# Altium schematic symbol library Microcontrolador.SchLib: 32 symbols (part 2 of 3)
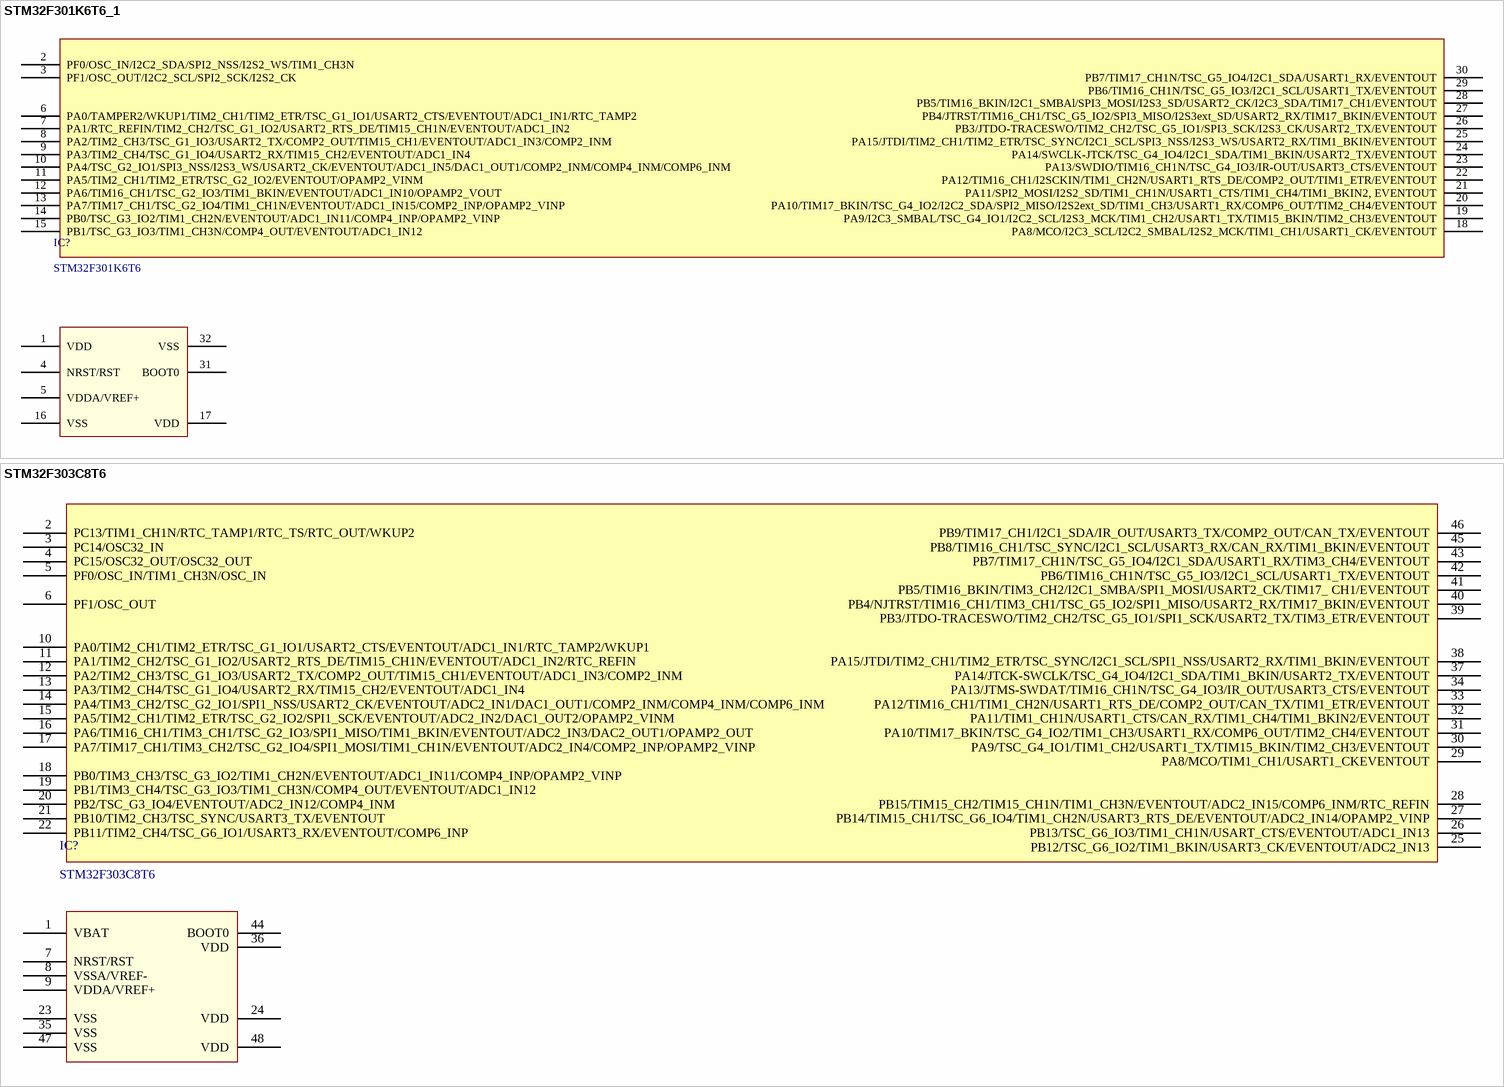
[diagram p12: symbols STM32F301K6T6_1 to STM32F303C8T6]

## STM32F303C8T6
designator IC?
IC MCU 32-BIT 64kB FLASH ARM Cortex-M4 72MHZ LQFP-48; Manufacturer: STMicroelectronics; Connectivity: CAN,I2C,LIN,SPI,USART,IrDA; Number of I/Os: 38; Oscillator Type: Internal; Peripherals: Reset,PWM,WDT,DMA,SPI,I2C,Timer,ADC,DAC,USART; RAM Size: 16 kB; Voltage - Supply (Vcc/Vdd): 2V ~ 3.6V; Number of Timers/Counters: 11; Number of ADC Channels: 15; Number of SPI Channels: 1; Number of UART/USART Channels: 3; Library Control - Checked Footprint: Yes; Library Control - Person that Checked Footprint: Gustavo; Library Control - Person that did the Last Update Footprint: Stéfany (Ster); Library Control - Person that did the Last Update Schematic: Maria Laura e Stéfany (Ster); Supplier 1: Mouser; Part Number: STM32F303C8T6; Category: ARM-Microcontrollers; Price: 1=7.28, 10=6.58, 100=5.45 (USD); Package / Case: LQFP-48; Operating Temperature: -40C ~ 85C; Speed: 72 MHz; Program Memory Type: Flash; Program Memory Size: 64 kB; Core Processor: ARM Cortex-M4; Core Size: 32-bit; Number of I2C Channels: 1; Number of Ethernet Channels: -; Number of USB Channels: -; Series: STM32F3; Library Ref: Microcontroller; Supplier Part Number 1: 511-STM32F303C8T6; Library Control - Checked Schematic: Yes; Library Control - Last Update: 19/08/2022 20:50; Library Control - Person that Checked Schematic: Gustavo; ComponentLink1Description: Mouser Link; ComponentLink1URL: https://br.mouser.com/ProductDetail/STMicroelectronics/STM32F303C8T6?qs=%2Fha2pyFadugVtlbo%2FWUwLIDEIPGaO6sxMBK%252BtuVV9P8f9sMkjwQxlV3LpBGivNNF; ComponentLink2Description: Datasheet; ComponentLink2URL: https://br.mouser.com/datasheet/2/389/dm00092070-1797744.pdf
footprint LQFP-48
pins: 1 VBAT, 2 PC13/TIM1_CH1N/RTC_TAMP1/RTC_TS/RTC_OUT/WKUP2, 3 PC14/OSC32_IN, 4 PC15/OSC32_OUT/OSC32_OUT, 5 PF0/OSC_IN/TIM1_CH3N/OSC_IN, 6 PF1/OSC_OUT, 7 NRST/RST, 8 VSSA/VREF-, 9 VDDA/VREF+, 10 PA0/TIM2_CH1/TIM2_ETR/TSC_G1_IO1/USART2_CTS/EVENTOUT/ADC1_IN1/RTC_TAMP2/WKUP1, 11 PA1/TIM2_CH2/TSC_G1_IO2/USART2_RTS_DE/TIM15_CH1N/EVENTOUT/ADC1_IN2/RTC_REFIN, 12 PA2/TIM2_CH3/TSC_G1_IO3/USART2_TX/COMP2_OUT/TIM15_CH1/EVENTOUT/ADC1_IN3/COMP2_INM, 13 PA3/TIM2_CH4/TSC_G1_IO4/USART2_RX/TIM15_CH2/EVENTOUT/ADC1_IN4, 14 PA4/TIM3_CH2/TSC_G2_IO1/SPI1_NSS/USART2_CK/EVENTOUT/ADC2_IN1/DAC1_OUT1/COMP2_INM/COMP4_INM/COMP6_INM, 15 PA5/TIM2_CH1/TIM2_ETR/TSC_G2_IO2/SPI1_SCK/EVENTOUT/ADC2_IN2/DAC1_OUT2/OPAMP2_VINM, 16 PA6/TIM16_CH1/TIM3_CH1/TSC_G2_IO3/SPI1_MISO/TIM1_BKIN/EVENTOUT/ADC2_IN3/DAC2_OUT1/OPAMP2_OUT, 17 PA7/TIM17_CH1/TIM3_CH2/TSC_G2_IO4/SPI1_MOSI/TIM1_CH1N/EVENTOUT/ADC2_IN4/COMP2_INP/OPAMP2_VINP, 18 PB0/TIM3_CH3/TSC_G3_IO2/TIM1_CH2N/EVENTOUT/ADC1_IN11/COMP4_INP/OPAMP2_VINP, 19 PB1/TIM3_CH4/TSC_G3_IO3/TIM1_CH3N/COMP4_OUT/EVENTOUT/ADC1_IN12, 20 PB2/TSC_G3_IO4/EVENTOUT/ADC2_IN12/COMP4_INM, 21 PB10/TIM2_CH3/TSC_SYNC/USART3_TX/EVENTOUT, 22 PB11/TIM2_CH4/TSC_G6_IO1/USART3_RX/EVENTOUT/COMP6_INP, 23 VSS, 24 VDD, 25 PB12/TSC_G6_IO2/TIM1_BKIN/USART3_CK/EVENTOUT/ADC2_IN13, 26 PB13/TSC_G6_IO3/TIM1_CH1N/USART_CTS/EVENTOUT/ADC1_IN13, 27 PB14/TIM15_CH1/TSC_G6_IO4/TIM1_CH2N/USART3_RTS_DE/EVENTOUT/ADC2_IN14/OPAMP2_VINP, 28 PB15/TIM15_CH2/TIM15_CH1N/TIM1_CH3N/EVENTOUT/ADC2_IN15/COMP6_INM/RTC_REFIN, 29 PA8/MCO/TIM1_CH1/USART1_CKEVENTOUT, 30 PA9/TSC_G4_IO1/TIM1_CH2/USART1_TX/TIM15_BKIN/TIM2_CH3/EVENTOUT, 31 PA10/TIM17_BKIN/TSC_G4_IO2/TIM1_CH3/USART1_RX/COMP6_OUT/TIM2_CH4/EVENTOUT, 32 PA11/TIM1_CH1N/USART1_CTS/CAN_RX/TIM1_CH4/TIM1_BKIN2/EVENTOUT, 33 PA12/TIM16_CH1/TIM1_CH2N/USART1_RTS_DE/COMP2_OUT/CAN_TX/TIM1_ETR/EVENTOUT, 34 PA13/JTMS-SWDAT/TIM16_CH1N/TSC_G4_IO3/IR_OUT/USART3_CTS/EVENTOUT, 35 VSS, 36 VDD, 37 PA14/JTCK-SWCLK/TSC_G4_IO4/I2C1_SDA/TIM1_BKIN/USART2_TX/EVENTOUT, 38 PA15/JTDI/TIM2_CH1/TIM2_ETR/TSC_SYNC/I2C1_SCL/SPI1_NSS/USART2_RX/TIM1_BKIN/EVENTOUT, 39 PB3/JTDO-TRACESWO/TIM2_CH2/TSC_G5_IO1/SPI1_SCK/USART2_TX/TIM3_ETR/EVENTOUT, 40 PB4/NJTRST/TIM16_CH1/TIM3_CH1/TSC_G5_IO2/SPI1_MISO/USART2_RX/TIM17_BKIN/EVENTOUT, 41 PB5/TIM16_BKIN/TIM3_CH2/I2C1_SMBA/SPI1_MOSI/USART2_CK/TIM17_ CH1/EVENTOUT, 42 PB6/TIM16_CH1N/TSC_G5_IO3/I2C1_SCL/USART1_TX/EVENTOUT, 43 PB7/TIM17_CH1N/TSC_G5_IO4/I2C1_SDA/USART1_RX/TIM3_CH4/EVENTOUT, 44 BOOT0, 45 PB8/TIM16_CH1/TSC_SYNC/I2C1_SCL/USART3_RX/CAN_RX/TIM1_BKIN/EVENTOUT, 46 PB9/TIM17_CH1/I2C1_SDA/IR_OUT/USART3_TX/COMP2_OUT/CAN_TX/EVENTOUT, 47 VSS, 48 VDD

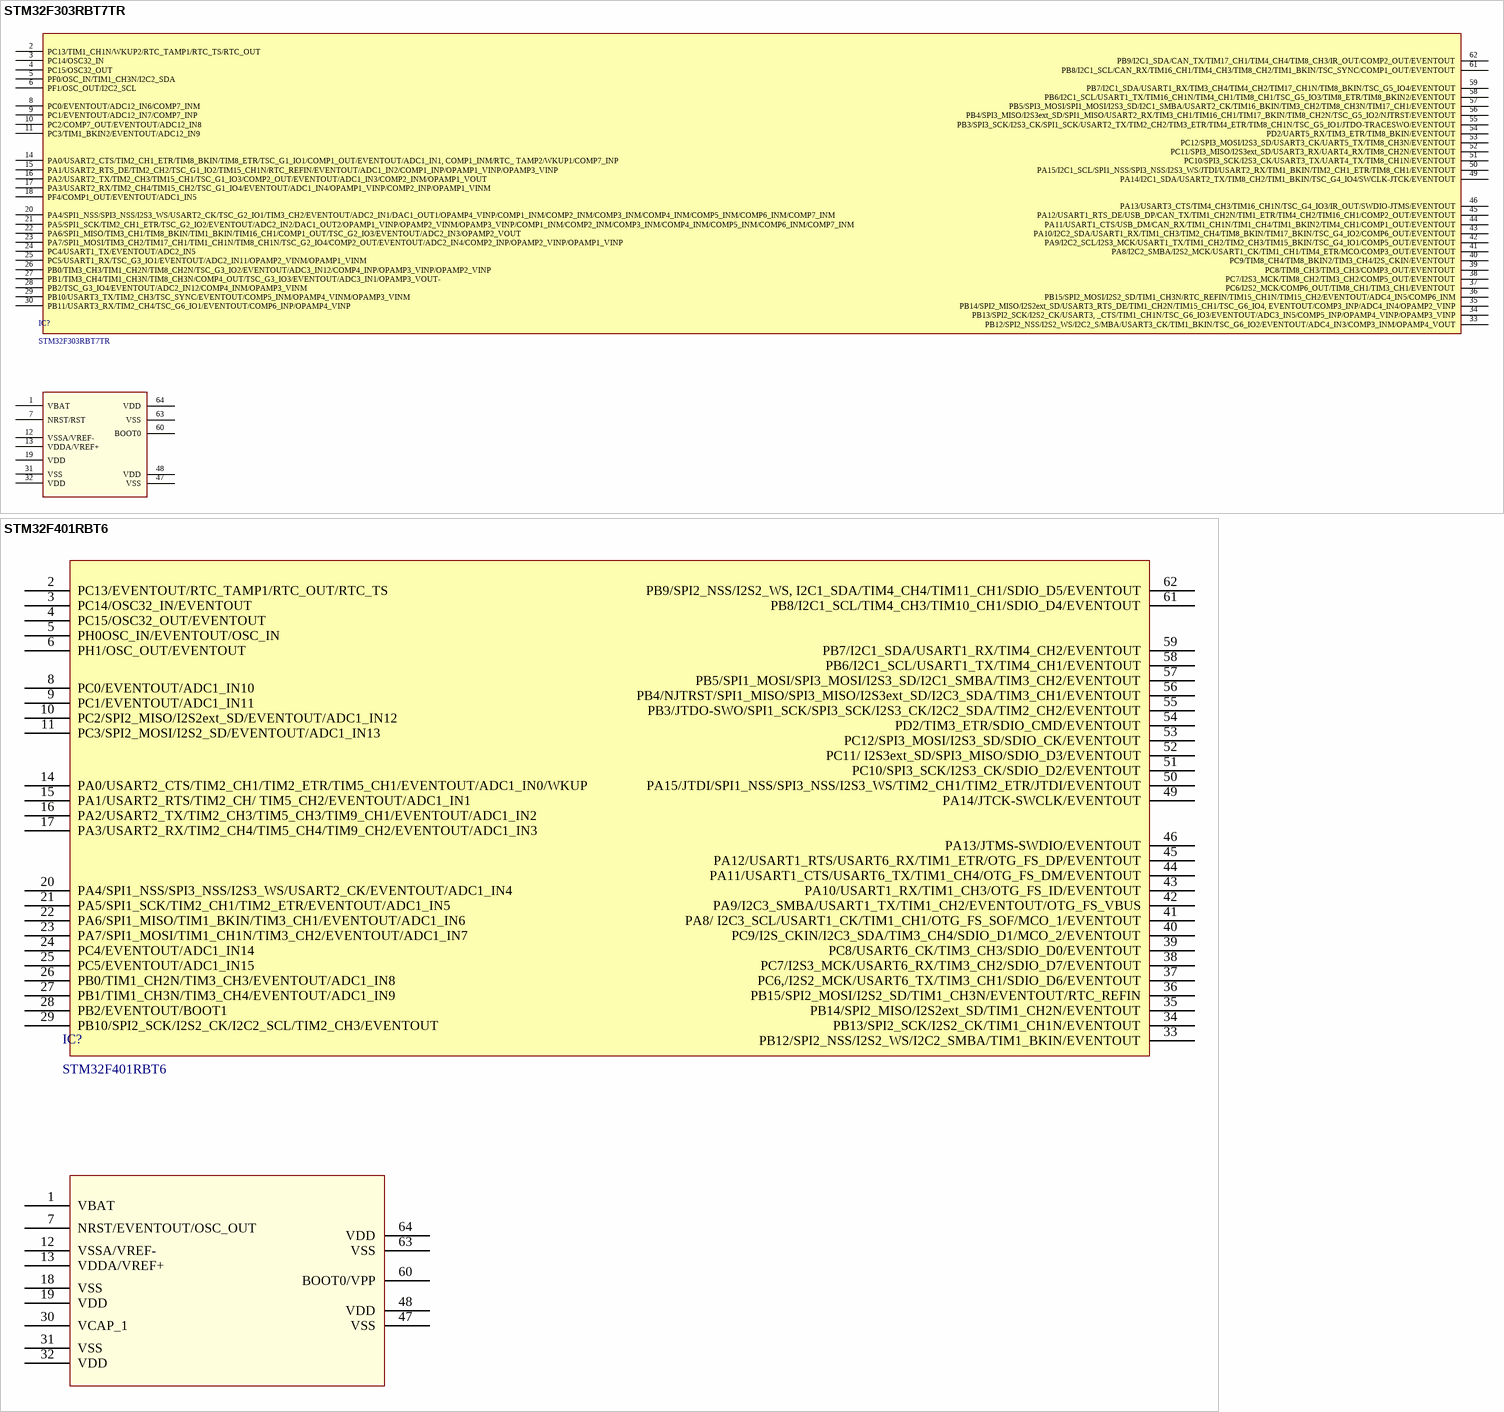
[diagram p6: symbols STM32F303RBT7TR to STM32F401RBT6]

## STM32F303RBT7TR
designator IC?
IC MCU 32-BIT 128kB FLASH ARM Cortex-M4 72MHZ LQFP-64; Manufacturer: STMicroelectronics; Connectivity: Reset,SPI,I2C,USART,UART,CAN,USB,IrDA,LIN; Number of I/Os: 52; Oscillator Type: Internal; Peripherals: Reset,RTC,DMA,ADC,DAC,CAN,I2C,USART,SPI,USB,WDT,Timer,PWM; RAM Size: 32 kB; Voltage - Supply (Vcc/Vdd): 2V ~ 3.6V; Number of Timers/Counters: 10; Number of ADC Channels: 22; Number of SPI Channels: 3; Number of I2C Channels: 2; Number of UART/USART Channels: 2/3; Number of USB Channels: 1; Library Control - Checked Footprint: Yes; Library Control - Person that Checked Footprint: Gustavo; Library Control - Person that did the Last Update Footprint: Stéfany (Ster); Library Control - Person that did the Last Update Schematic: Maria Laura e Stéfany (Ster); Supplier 1: Mouser; Part Number: STM32F303RBT7TR; Category: ARM-Microcontrollers; Price: 1=9.30, 10=8.42, 100=6.97 (USD); Package / Case: LQFP-64; Operating Temperature: -40C ~ 105C; Speed: 72 MHz; Program Memory Type: Flash; Program Memory Size: 128 kB; Core Processor: ARM Cortex-M4; Core Size: 32-bit; Number of Ethernet Channels: -; Series: STM32F3; Library Ref: Microcontrollers; Supplier Part Number 1: 511-STM32F303RBT7TR; Library Control - Checked Schematic: Yes; Library Control - Last Update: 19/08/2022 20:51; Library Control - Person that Checked Schematic: Gustavo; ComponentLink1Description: Datasheet; ComponentLink1URL: https://br.mouser.com/datasheet/2/389/dm00058181-1797663.pdf; ComponentLink2Description: Mouser link; ComponentLink2URL: https://br.mouser.com/ProductDetail/STMicroelectronics/STM32F303RBT7TR?qs=%2Fha2pyFaduhRYzl9i01%252Bk9%2FPo%2FOkQ64Vm3D8MIcLu6MnAHyhCHUdvA%3D%3D
footprint LQFP-64
pins: 1 VBAT, 2 PC13/TIM1_CH1N/WKUP2/RTC_TAMP1/RTC_TS/RTC_OUT, 3 PC14/OSC32_IN, 4 PC15/OSC32_OUT, 5 PF0/OSC_IN/TIM1_CH3N/I2C2_SDA, 6 PF1/OSC_OUT/I2C2_SCL, 7 NRST/RST, 8 PC0/EVENTOUT/ADC12_IN6/COMP7_INM, 9 PC1/EVENTOUT/ADC12_IN7/COMP7_INP, 10 PC2/COMP7_OUT/EVENTOUT/ADC12_IN8, 11 PC3/TIM1_BKIN2/EVENTOUT/ADC12_IN9, 12 VSSA/VREF-, 13 VDDA/VREF+, 14 PA0/USART2_CTS/TIM2_CH1_ETR/TIM8_BKIN/TIM8_ETR/TSC_G1_IO1/COMP1_OUT/EVENTOUT/ADC1_IN1, COMP1_INM/RTC_ TAMP2/WKUP1/COMP7_INP, 15 PA1/USART2_RTS_DE/TIM2_CH2/TSC_G1_IO2/TIM15_CH1N/RTC_REFIN/EVENTOUT/ADC1_IN2/COMP1_INP/OPAMP1_VINP/OPAMP3_VINP, 16 PA2/USART2_TX/TIM2_CH3/TIM15_CH1/TSC_G1_IO3/COMP2_OUT/EVENTOUT/ADC1_IN3/COMP2_INM/OPAMP1_VOUT, 17 PA3/USART2_RX/TIM2_CH4/TIM15_CH2/TSC_G1_IO4/EVENTOUT/ADC1_IN4/OPAMP1_VINP/COMP2_INP/OPAMP1_VINM, 18 PF4/COMP1_OUT/EVENTOUT/ADC1_IN5, 19 VDD, 20 PA4/SPI1_NSS/SPI3_NSS/I2S3_WS/USART2_CK/TSC_G2_IO1/TIM3_CH2/EVENTOUT/ADC2_IN1/DAC1_OUT1/OPAMP4_VINP/COMP1_INM/COMP2_INM/COMP3_INM/COMP4_INM/COMP5_INM/COMP6_INM/COMP7_INM, 21 PA5/SPI1_SCK/TIM2_CH1_ETR/TSC_G2_IO2/EVENTOUT/ADC2_IN2/DAC1_OUT2/OPAMP1_VINP/OPAMP2_VINM/OPAMP3_VINP/COMP1_INM/COMP2_INM/COMP3_INM/COMP4_INM/COMP5_INM/COMP6_INM/COMP7_INM, 22 PA6/SPI1_MISO/TIM3_CH1/TIM8_BKIN/TIM1_BKIN/TIM16_CH1/COMP1_OUT/TSC_G2_IO3/EVENTOUT/ADC2_IN3/OPAMP2_VOUT, 23 PA7/SPI1_MOSI/TIM3_CH2/TIM17_CH1/TIM1_CH1N/TIM8_CH1N/TSC_G2_IO4/COMP2_OUT/EVENTOUT/ADC2_IN4/COMP2_INP/OPAMP2_VINP/OPAMP1_VINP, 24 PC4/USART1_TX/EVENTOUT/ADC2_IN5, 25 PC5/USART1_RX/TSC_G3_IO1/EVENTOUT/ADC2_IN11/OPAMP2_VINM/OPAMP1_VINM, 26 PB0/TIM3_CH3/TIM1_CH2N/TIM8_CH2N/TSC_G3_IO2/EVENTOUT/ADC3_IN12/COMP4_INP/OPAMP3_VINP/OPAMP2_VINP, 27 PB1/TIM3_CH4/TIM1_CH3N/TIM8_CH3N/COMP4_OUT/TSC_G3_IO3/EVENTOUT/ADC3_IN1/OPAMP3_VOUT-, 28 PB2/TSC_G3_IO4/EVENTOUT/ADC2_IN12/COMP4_INM/OPAMP3_VINM, 29 PB10/USART3_TX/TIM2_CH3/TSC_SYNC/EVENTOUT/COMP5_INM/OPAMP4_VINM/OPAMP3_VINM, 30 PB11/USART3_RX/TIM2_CH4/TSC_G6_IO1/EVENTOUT/COMP6_INP/OPAMP4_VINP, 31 VSS, 32 VDD, 33 PB12/SPI2_NSS/I2S2_WS/I2C2_S/MBA/USART3_CK/TIM1_BKIN/TSC_G6_IO2/EVENTOUT/ADC4_IN3/COMP3_INM/OPAMP4_VOUT, 34 PB13/SPI2_SCK/I2S2_CK/USART3, _CTS/TIM1_CH1N/TSC_G6_IO3/EVENTOUT/ADC3_IN5/COMP5_INP/OPAMP4_VINP/OPAMP3_VINP, 35 PB14/SPI2_MISO/I2S2ext_SD/USART3_RTS_DE/TIM1_CH2N/TIM15_CH1/TSC_G6_IO4, EVENTOUT/COMP3_INP/ADC4_IN4/OPAMP2_VINP, 36 PB15/SPI2_MOSI/I2S2_SD/TIM1_CH3N/RTC_REFIN/TIM15_CH1N/TIM15_CH2/EVENTOUT/ADC4_IN5/COMP6_INM, 37 PC6/I2S2_MCK/COMP6_OUT/TIM8_CH1/TIM3_CH1/EVENTOUT, 38 PC7/I2S3_MCK/TIM8_CH2/TIM3_CH2/COMP5_OUT/EVENTOUT, 39 PC8/TIM8_CH3/TIM3_CH3/COMP3_OUT/EVENTOUT, 40 PC9/TIM8_CH4/TIM8_BKIN2/TIM3_CH4/I2S_CKIN/EVENTOUT, 41 PA8/I2C2_SMBA/I2S2_MCK/USART1_CK/TIM1_CH1/TIM4_ETR/MCO/COMP3_OUT/EVENTOUT, 42 PA9/I2C2_SCL/I2S3_MCK/USART1_TX/TIM1_CH2/TIM2_CH3/TIM15_BKIN/TSC_G4_IO1/COMP5_OUT/EVENTOUT, 43 PA10/I2C2_SDA/USART1_RX/TIM1_CH3/TIM2_CH4/TIM8_BKIN/TIM17_BKIN/TSC_G4_IO2/COMP6_OUT/EVENTOUT, 44 PA11/USART1_CTS/USB_DM/CAN_RX/TIM1_CH1N/TIM1_CH4/TIM1_BKIN2/TIM4_CH1/COMP1_OUT/EVENTOUT, 45 PA12/USART1_RTS_DE/USB_DP/CAN_TX/TIM1_CH2N/TIM1_ETR/TIM4_CH2/TIM16_CH1/COMP2_OUT/EVENTOUT, 46 PA13/USART3_CTS/TIM4_CH3/TIM16_CH1N/TSC_G4_IO3/IR_OUT/SWDIO-JTMS/EVENTOUT, 47 VSS, 48 VDD, 49 PA14/I2C1_SDA/USART2_TX/TIM8_CH2/TIM1_BKIN/TSC_G4_IO4/SWCLK-JTCK/EVENTOUT, 50 PA15/I2C1_SCL/SPI1_NSS/SPI3_NSS/I2S3_WS/JTDI/USART2_RX/TIM1_BKIN/TIM2_CH1_ETR/TIM8_CH1/EVENTOUT, 51 PC10/SPI3_SCK/I2S3_CK/USART3_TX/UART4_TX/TIM8_CH1N/EVENTOUT, 52 PC11/SPI3_MISO/I2S3ext_SD/USART3_RX/UART4_RX/TIM8_CH2N/EVENTOUT, 53 PC12/SPI3_MOSI/I2S3_SD/USART3_CK/UART5_TX/TIM8_CH3N/EVENTOUT, 54 PD2/UART5_RX/TIM3_ETR/TIM8_BKIN/EVENTOUT, 55 PB3/SPI3_SCK/I2S3_CK/SPI1_SCK/USART2_TX/TIM2_CH2/TIM3_ETR/TIM4_ETR/TIM8_CH1N/TSC_G5_IO1/JTDO-TRACESWO/EVENTOUT, 56 PB4/SPI3_MISO/I2S3ext_SD/SPI1_MISO/USART2_RX/TIM3_CH1/TIM16_CH1/TIM17_BKIN/TIM8_CH2N/TSC_G5_IO2/NJTRST/EVENTOUT, 57 PB5/SPI3_MOSI/SPI1_MOSI/I2S3_SD/I2C1_SMBA/USART2_CK/TIM16_BKIN/TIM3_CH2/TIM8_CH3N/TIM17_CH1/EVENTOUT, 58 PB6/I2C1_SCL/USART1_TX/TIM16_CH1N/TIM4_CH1/TIM8_CH1/TSC_G5_IO3/TIM8_ETR/TIM8_BKIN2/EVENTOUT, 59 PB7/I2C1_SDA/USART1_RX/TIM3_CH4/TIM4_CH2/TIM17_CH1N/TIM8_BKIN/TSC_G5_IO4/EVENTOUT, 60 BOOT0, 61 PB8/I2C1_SCL/CAN_RX/TIM16_CH1/TIM4_CH3/TIM8_CH2/TIM1_BKIN/TSC_SYNC/COMP1_OUT/EVENTOUT, 62 PB9/I2C1_SDA/CAN_TX/TIM17_CH1/TIM4_CH4/TIM8_CH3/IR_OUT/COMP2_OUT/EVENTOUT, 63 VSS, 64 VDD

## STM32F401RBT6
designator IC?
IC MCU 32-BIT 128kB FLASH ARM Cortex-M4 84MHZ LQFP-64; Manufacturer: STMicroelectronics; Connectivity: I2C,I2S,SDIO,SPI,USART,USB OTG,IrDA,LIN; Number of I/Os: 50; Oscillator Type: Internal; Peripherals: Reset,ADC,Timer,WDT,SWD,JTAG,I2C,USART,SPI/I2S,SDIO,USB OTG,DMA; RAM Size: 64 kB; Voltage - Supply (Vcc/Vdd): 1.7V ~ 3.6V; Number of Timers/Counters: 8; Number of ADC Channels: 16; Number of SPI Channels: 3 ~ 4; Number of I2C Channels: 3; Number of USB Channels: 1; Library Control - Checked Footprint: Yes; Library Control - Person that Checked Footprint: Gustavo; Library Control - Person that did the Last Update Footprint: Stéfany (Ster); Library Control - Person that did the Last Update Schematic: Maria Laura e Stéfany (Ster); Supplier 1: Mouser; Part Number: STM32F401RBT6; Category: ARM-Microcontrollers; Price: 1=7.18, 10=6.50, 100=5.38 (USD); Package / Case: LQFP-64; Operating Temperature: -40C ~ 85C; Speed: 84 MHz; Program Memory Type: Flash; Program Memory Size: 128 kB; Core Processor: ARM Cortex-M4; Core Size: 32-bit; Number of UART/USART Channels: 3; Number of Ethernet Channels: -; Series: STM32F4; Library Ref: Microcontrollers; Supplier Part Number 1: 511-STM32F401RBT6; Library Control - Checked Schematic: Yes; Library Control - Last Update: 19/08/2022 20:52; Library Control - Person that Checked Schematic: Gustavo; ComponentLink1Description: Datasheet; ComponentLink1URL: https://br.mouser.com/datasheet/2/389/dm00086815-1797941.pdf; ComponentLink2Description: Mouser link; ComponentLink2URL: https://br.mouser.com/ProductDetail/STMicroelectronics/STM32F401RBT6?qs=4ccVDqXDOrn4COlKBEB%252BDA%3D%3D
footprint LQFP-64
pins: 1 VBAT, 2 PC13/EVENTOUT/RTC_TAMP1/RTC_OUT/RTC_TS, 3 PC14/OSC32_IN/EVENTOUT, 4 PC15/OSC32_OUT/EVENTOUT, 5 PH0OSC_IN/EVENTOUT/OSC_IN, 6 PH1/OSC_OUT/EVENTOUT, 7 NRST/EVENTOUT/OSC_OUT, 8 PC0/EVENTOUT/ADC1_IN10, 9 PC1/EVENTOUT/ADC1_IN11, 10 PC2/SPI2_MISO/I2S2ext_SD/EVENTOUT/ADC1_IN12, 11 PC3/SPI2_MOSI/I2S2_SD/EVENTOUT/ADC1_IN13, 12 VSSA/VREF-, 13 VDDA/VREF+, 14 PA0/USART2_CTS/TIM2_CH1/TIM2_ETR/TIM5_CH1/EVENTOUT/ADC1_IN0/WKUP, 15 PA1/USART2_RTS/TIM2_CH/ TIM5_CH2/EVENTOUT/ADC1_IN1, 16 PA2/USART2_TX/TIM2_CH3/TIM5_CH3/TIM9_CH1/EVENTOUT/ADC1_IN2, 17 PA3/USART2_RX/TIM2_CH4/TIM5_CH4/TIM9_CH2/EVENTOUT/ADC1_IN3, 18 VSS, 19 VDD, 20 PA4/SPI1_NSS/SPI3_NSS/I2S3_WS/USART2_CK/EVENTOUT/ADC1_IN4, 21 PA5/SPI1_SCK/TIM2_CH1/TIM2_ETR/EVENTOUT/ADC1_IN5, 22 PA6/SPI1_MISO/TIM1_BKIN/TIM3_CH1/EVENTOUT/ADC1_IN6, 23 PA7/SPI1_MOSI/TIM1_CH1N/TIM3_CH2/EVENTOUT/ADC1_IN7, 24 PC4/EVENTOUT/ADC1_IN14, 25 PC5/EVENTOUT/ADC1_IN15, 26 PB0/TIM1_CH2N/TIM3_CH3/EVENTOUT/ADC1_IN8, 27 PB1/TIM1_CH3N/TIM3_CH4/EVENTOUT/ADC1_IN9, 28 PB2/EVENTOUT/BOOT1, 29 PB10/SPI2_SCK/I2S2_CK/I2C2_SCL/TIM2_CH3/EVENTOUT, 30 VCAP_1, 31 VSS, 32 VDD, 33 PB12/SPI2_NSS/I2S2_WS/I2C2_SMBA/TIM1_BKIN/EVENTOUT, 34 PB13/SPI2_SCK/I2S2_CK/TIM1_CH1N/EVENTOUT, 35 PB14/SPI2_MISO/I2S2ext_SD/TIM1_CH2N/EVENTOUT, 36 PB15/SPI2_MOSI/I2S2_SD/TIM1_CH3N/EVENTOUT/RTC_REFIN, 37 PC6,/I2S2_MCK/USART6_TX/TIM3_CH1/SDIO_D6/EVENTOUT, 38 PC7/I2S3_MCK/USART6_RX/TIM3_CH2/SDIO_D7/EVENTOUT, 39 PC8/USART6_CK/TIM3_CH3/SDIO_D0/EVENTOUT, 40 PC9/I2S_CKIN/I2C3_SDA/TIM3_CH4/SDIO_D1/MCO_2/EVENTOUT, 41 PA8/ I2C3_SCL/USART1_CK/TIM1_CH1/OTG_FS_SOF/MCO_1/EVENTOUT, 42 PA9/I2C3_SMBA/USART1_TX/TIM1_CH2/EVENTOUT/OTG_FS_VBUS, 43 PA10/USART1_RX/TIM1_CH3/OTG_FS_ID/EVENTOUT, 44 PA11/USART1_CTS/USART6_TX/TIM1_CH4/OTG_FS_DM/EVENTOUT, 45 PA12/USART1_RTS/USART6_RX/TIM1_ETR/OTG_FS_DP/EVENTOUT, 46 PA13/JTMS-SWDIO/EVENTOUT, 47 VSS, 48 VDD, 49 PA14/JTCK-SWCLK/EVENTOUT, 50 PA15/JTDI/SPI1_NSS/SPI3_NSS/I2S3_WS/TIM2_CH1/TIM2_ETR/JTDI/EVENTOUT, 51 PC10/SPI3_SCK/I2S3_CK/SDIO_D2/EVENTOUT, 52 PC11/ I2S3ext_SD/SPI3_MISO/SDIO_D3/EVENTOUT, 53 PC12/SPI3_MOSI/I2S3_SD/SDIO_CK/EVENTOUT, 54 PD2/TIM3_ETR/SDIO_CMD/EVENTOUT, 55 PB3/JTDO-SWO/SPI1_SCK/SPI3_SCK/I2S3_CK/I2C2_SDA/TIM2_CH2/EVENTOUT, 56 PB4/NJTRST/SPI1_MISO/SPI3_MISO/I2S3ext_SD/I2C3_SDA/TIM3_CH1/EVENTOUT, 57 PB5/SPI1_MOSI/SPI3_MOSI/I2S3_SD/I2C1_SMBA/TIM3_CH2/EVENTOUT, 58 PB6/I2C1_SCL/USART1_TX/TIM4_CH1/EVENTOUT, 59 PB7/I2C1_SDA/USART1_RX/TIM4_CH2/EVENTOUT, 60 BOOT0/VPP, 61 PB8/I2C1_SCL/TIM4_CH3/TIM10_CH1/SDIO_D4/EVENTOUT, 62 PB9/SPI2_NSS/I2S2_WS, I2C1_SDA/TIM4_CH4/TIM11_CH1/SDIO_D5/EVENTOUT, 63 VSS, 64 VDD

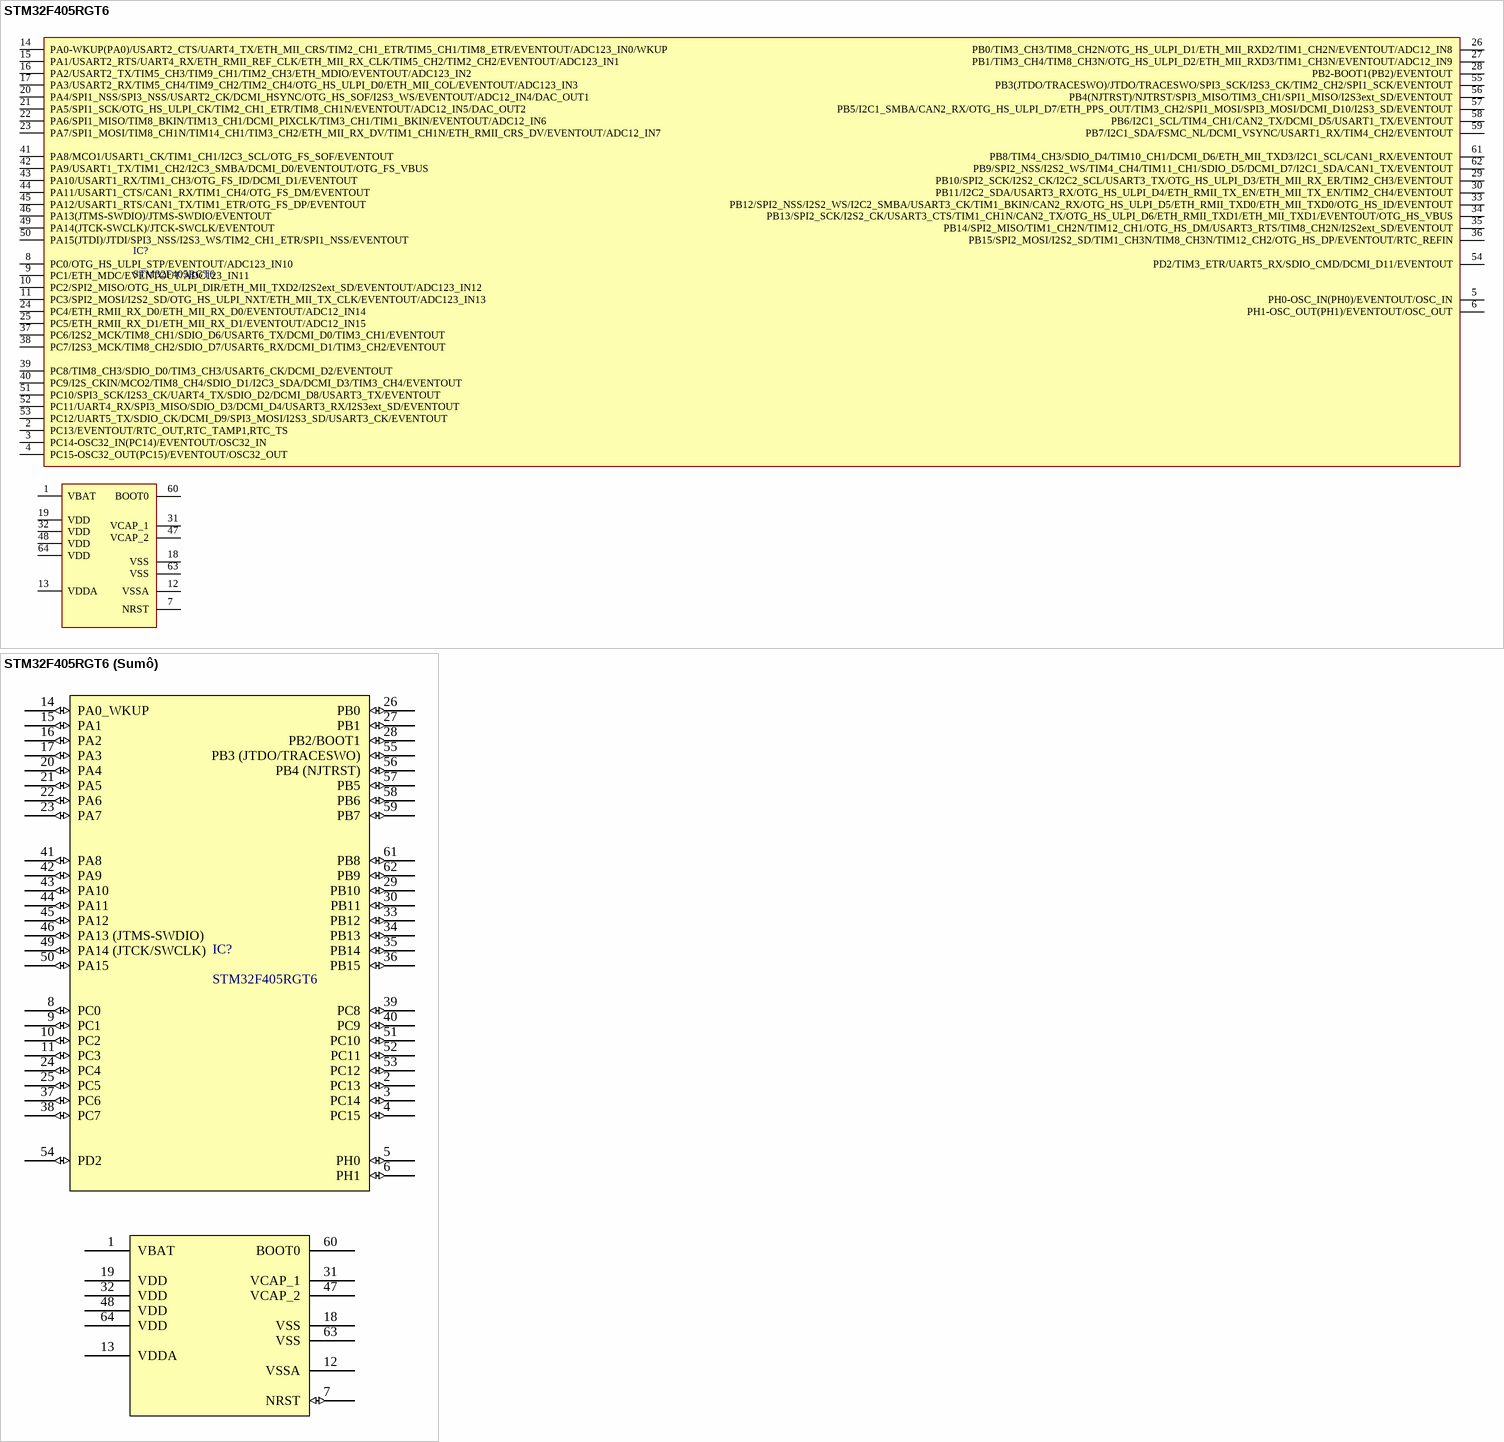
[diagram p7: symbols STM32F405RGT6 to STM32F405RGT6 (Sumô)]

## STM32F405RGT6
designator IC?
IC MCU 32-BIT 192kB FLASH ARM Cortex-M4 168MHz  LQFP-64; Manufacturer: STM; Number of I/Os: 51; Oscillator Type: Internal; Program Memory Size: 1024kB; Peripherals: CAN, I2C, SDIO, I2S / SPI, UART / USART, USB; Core Processor: ARM Cortex M0+; Voltage - Supply (Vcc/Vdd): 1.8 V to 3.6 V; Number of Timers/Counters: 17; Number of ADC Channels: 16; Number of SPI Channels: 3; Number of UART/USART Channels: 4; Library Control - Person that Checked Footprint: Gustavo; Library Control - Person that did the Last Update Footprint: Marcos; Supplier 1: Mouser; Part Number: STM32F405RGT6; Category: ARM Microcontrollers - MCU; Price: 1 = 18.22, 10 = 16.76,  100 = 14.15, 500 =12.59 (USD); Package/Case: LQFP-64; Operating Temperature: -40°C to 85°C; Connectivity: -; Speed: 168MHz; Program Memory Type: Flash; RAM Size: 192k B; Core Size: *; Number of I2C Channels: 3; Number of Ethernet Channels: -; Series: STM32F405RG; Library Ref: Microcrontrollers; Supplier Part Number 1: 511-STM32F405RGT6; Library Control - Checked Footprint: *; Library Control - Checked Schematic: *; Library Control - Last Project that Used: *; Library Control - Last Update: 19/08/2022 20:53; Library Control - Person that Checked Schematic: Gustavo; Library Control - Person that did the Last Update Schematic: Marcos; ComponentLink1Description: Mouser Link; ComponentLink1URL: https://www.mouser.com/ProductDetail/STMicroelectronics/STM32F405RGT6?qs=Z8%252BeY1k3TIKgj7QWsYGpQw%3D%3D; ComponentLink2Description: Datasheet Link; ComponentLink2URL: https://www.mouser.com/datasheet/2/389/dm00037051-1797298.pdf
footprint LQFP-64
pins: 1 VBAT (power), 2 PC13/EVENTOUT/RTC_OUT,RTC_TAMP1,RTC_TS, 3 PC14-OSC32_IN(PC14)/EVENTOUT/OSC32_IN, 4 PC15-OSC32_OUT(PC15)/EVENTOUT/OSC32_OUT, 5 PH0-OSC_IN(PH0)/EVENTOUT/OSC_IN, 6 PH1-OSC_OUT(PH1)/EVENTOUT/OSC_OUT, 7 NRST, 8 PC0/OTG_HS_ULPI_STP/EVENTOUT/ADC123_IN10, 9 PC1/ETH_MDC/EVENTOUT/ADC123_IN11, 10 PC2/SPI2_MISO/OTG_HS_ULPI_DIR/ETH_MII_TXD2/I2S2ext_SD/EVENTOUT/ADC123_IN12, 11 PC3/SPI2_MOSI/I2S2_SD/OTG_HS_ULPI_NXT/ETH_MII_TX_CLK/EVENTOUT/ADC123_IN13, 12 VSSA (power), 13 VDDA (power), 14 PA0-WKUP(PA0)/USART2_CTS/UART4_TX/ETH_MII_CRS/TIM2_CH1_ETR/TIM5_CH1/TIM8_ETR/EVENTOUT/ADC123_IN0/WKUP, 15 PA1/USART2_RTS/UART4_RX/ETH_RMII_REF_CLK/ETH_MII_RX_CLK/TIM5_CH2/TIM2_CH2/EVENTOUT/ADC123_IN1, 16 PA2/USART2_TX/TIM5_CH3/TIM9_CH1/TIM2_CH3/ETH_MDIO/EVENTOUT/ADC123_IN2, 17 PA3/USART2_RX/TIM5_CH4/TIM9_CH2/TIM2_CH4/OTG_HS_ULPI_D0/ETH_MII_COL/EVENTOUT/ADC123_IN3, 18 VSS (power), 19 VDD (power), 20 PA4/SPI1_NSS/SPI3_NSS/USART2_CK/DCMI_HSYNC/OTG_HS_SOF/I2S3_WS/EVENTOUT/ADC12_IN4/DAC_OUT1, 21 PA5/SPI1_SCK/OTG_HS_ULPI_CK/TIM2_CH1_ETR/TIM8_CH1N/EVENTOUT/ADC12_IN5/DAC_OUT2, 22 PA6/SPI1_MISO/TIM8_BKIN/TIM13_CH1/DCMI_PIXCLK/TIM3_CH1/TIM1_BKIN/EVENTOUT/ADC12_IN6, 23 PA7/SPI1_MOSI/TIM8_CH1N/TIM14_CH1/TIM3_CH2/ETH_MII_RX_DV/TIM1_CH1N/ETH_RMII_CRS_DV/EVENTOUT/ADC12_IN7, 24 PC4/ETH_RMII_RX_D0/ETH_MII_RX_D0/EVENTOUT/ADC12_IN14, 25 PC5/ETH_RMII_RX_D1/ETH_MII_RX_D1/EVENTOUT/ADC12_IN15, 26 PB0/TIM3_CH3/TIM8_CH2N/OTG_HS_ULPI_D1/ETH_MII_RXD2/TIM1_CH2N/EVENTOUT/ADC12_IN8, 27 PB1/TIM3_CH4/TIM8_CH3N/OTG_HS_ULPI_D2/ETH_MII_RXD3/TIM1_CH3N/EVENTOUT/ADC12_IN9, 28 PB2-BOOT1(PB2)/EVENTOUT, 29 PB10/SPI2_SCK/I2S2_CK/I2C2_SCL/USART3_TX/OTG_HS_ULPI_D3/ETH_MII_RX_ER/TIM2_CH3/EVENTOUT, 30 PB11/I2C2_SDA/USART3_RX/OTG_HS_ULPI_D4/ETH_RMII_TX_EN/ETH_MII_TX_EN/TIM2_CH4/EVENTOUT, 31 VCAP_1 (power), 32 VDD (power), 33 PB12/SPI2_NSS/I2S2_WS/I2C2_SMBA/USART3_CK/TIM1_BKIN/CAN2_RX/OTG_HS_ULPI_D5/ETH_RMII_TXD0/ETH_MII_TXD0/OTG_HS_ID/EVENTOUT, 34 PB13/SPI2_SCK/I2S2_CK/USART3_CTS/TIM1_CH1N/CAN2_TX/OTG_HS_ULPI_D6/ETH_RMII_TXD1/ETH_MII_TXD1/EVENTOUT/OTG_HS_VBUS, 35 PB14/SPI2_MISO/TIM1_CH2N/TIM12_CH1/OTG_HS_DM/USART3_RTS/TIM8_CH2N/I2S2ext_SD/EVENTOUT, 36 PB15/SPI2_MOSI/I2S2_SD/TIM1_CH3N/TIM8_CH3N/TIM12_CH2/OTG_HS_DP/EVENTOUT/RTC_REFIN, 37 PC6/I2S2_MCK/TIM8_CH1/SDIO_D6/USART6_TX/DCMI_D0/TIM3_CH1/EVENTOUT, 38 PC7/I2S3_MCK/TIM8_CH2/SDIO_D7/USART6_RX/DCMI_D1/TIM3_CH2/EVENTOUT, 39 PC8/TIM8_CH3/SDIO_D0/TIM3_CH3/USART6_CK/DCMI_D2/EVENTOUT, 40 PC9/I2S_CKIN/MCO2/TIM8_CH4/SDIO_D1/I2C3_SDA/DCMI_D3/TIM3_CH4/EVENTOUT, 41 PA8/MCO1/USART1_CK/TIM1_CH1/I2C3_SCL/OTG_FS_SOF/EVENTOUT, 42 PA9/USART1_TX/TIM1_CH2/I2C3_SMBA/DCMI_D0/EVENTOUT/OTG_FS_VBUS, 43 PA10/USART1_RX/TIM1_CH3/OTG_FS_ID/DCMI_D1/EVENTOUT, 44 PA11/USART1_CTS/CAN1_RX/TIM1_CH4/OTG_FS_DM/EVENTOUT, 45 PA12/USART1_RTS/CAN1_TX/TIM1_ETR/OTG_FS_DP/EVENTOUT, 46 PA13(JTMS-SWDIO)/JTMS-SWDIO/EVENTOUT, 47 VCAP_2 (power), 48 VDD (power), 49 PA14(JTCK-SWCLK)/JTCK-SWCLK/EVENTOUT, 50 PA15(JTDI)/JTDI/SPI3_NSS/I2S3_WS/TIM2_CH1_ETR/SPI1_NSS/EVENTOUT, 51 PC10/SPI3_SCK/I2S3_CK/UART4_TX/SDIO_D2/DCMI_D8/USART3_TX/EVENTOUT, 52 PC11/UART4_RX/SPI3_MISO/SDIO_D3/DCMI_D4/USART3_RX/I2S3ext_SD/EVENTOUT, 53 PC12/UART5_TX/SDIO_CK/DCMI_D9/SPI3_MOSI/I2S3_SD/USART3_CK/EVENTOUT, 54 PD2/TIM3_ETR/UART5_RX/SDIO_CMD/DCMI_D11/EVENTOUT, 55 PB3(JTDO/TRACESWO)/JTDO/TRACESWO/SPI3_SCK/I2S3_CK/TIM2_CH2/SPI1_SCK/EVENTOUT, 56 PB4(NJTRST)/NJTRST/SPI3_MISO/TIM3_CH1/SPI1_MISO/I2S3ext_SD/EVENTOUT, 57 PB5/I2C1_SMBA/CAN2_RX/OTG_HS_ULPI_D7/ETH_PPS_OUT/TIM3_CH2/SPI1_MOSI/SPI3_MOSI/DCMI_D10/I2S3_SD/EVENTOUT, 58 PB6/I2C1_SCL/TIM4_CH1/CAN2_TX/DCMI_D5/USART1_TX/EVENTOUT, 59 PB7/I2C1_SDA/FSMC_NL/DCMI_VSYNC/USART1_RX/TIM4_CH2/EVENTOUT, 60 BOOT0 "BOOT0/VPP", 61 PB8/TIM4_CH3/SDIO_D4/TIM10_CH1/DCMI_D6/ETH_MII_TXD3/I2C1_SCL/CAN1_RX/EVENTOUT, 62 PB9/SPI2_NSS/I2S2_WS/TIM4_CH4/TIM11_CH1/SDIO_D5/DCMI_D7/I2C1_SDA/CAN1_TX/EVENTOUT, 63 VSS (power), 64 VDD (power)

## STM32F405RGT6 (Sumô)
designator IC?, comment STM32F405RGT6
MCU 32-bit STM32F ARM Cortex M4F RISC 1024KB Flash 2.5V/3.3V 64-Pin LQFP Tray; Manufacturer: STMicroelectronics; Interface: I2C,SPI,USB,CAN,IrDA,UART,USART,LIN,I2S; Data Bus Width: 32b; RAM Size: 196KB; Number of I/Os: 51; Number of Timers/Counters: 14; Frequency: 168MHz; Number of ADC Channels: 16; Max Supply Voltage: 3.6V; Min Supply Voltage: 1.8V; Oscillator Type: Internal; Number of SPI Channels: 3; Peripherals: Brown-out Detect/Reset,POR,PWM,WDT,DMA,LCD,I2C; Number of PWM Channels: 2; Watchdog Timer: Yes; Number of USB Channels: 2NUMBER; Nominal Supply Current: 1.7uA; Number of A/D Converters: 3NUMBER; Number of Channels: 16NUMBER; Supplier: Mouser; Supplier Part Number: 511-STM32F405RGT6; Manufacturer Part Number: STM32F405RGT6; RoHS: Yes; Category: Microcontrollers; Stock: 10062; Pricing: 1=12,45, 10=11,49, 50=11,1, 100=9,74, 1000=7,44, 10000=7,44 (USD); Case/Package: LQFP; Pins: 64; Min Operating Temperature: -40°C; Max Operating Temperature: 85°C; Core Architecture: ARM; Packaging: Tray; Series: STM32 F4; Package Quantity: 960; Memory Size: 1024KB; Clock Frequency: 168MHz; Number of I2C Channels: 3; Memory Format: FLASH; Number of UART Channels: 2; Number of Programmable I/O: 51; Number of D/A Converters: 2NUMBER; Length: 10mm; Width: 10mm; Height: 1.45mm; Radiation Hardening: No; Reach SVHC Compliant: No; RoHS Compliant: Yes; Lead Free: Lead Free; ComponentLink1URL: https://datasheet.ciiva.com/8055/1717982-8055024.pdf?src-supplier=Element14; ComponentLink1Description: https://datasheet.ciiva.com/8055/1717982-8055024.pdf?src-supplier=Element14; ComponentLink2URL: https://datasheet.ciiva.com/4837/dm00037051-492832-4837997.pdf?src-supplier=Mouser; ComponentLink2Description: https://datasheet.ciiva.com/4837/dm00037051-492832-4837997.pdf?src-supplier=Mouser
footprint LQFP-64
pins: 1 VBAT (power), 2 PC13 (io), 3 PC14 (io), 4 PC15 (io), 5 PH0 (io), 6 PH1 (io), 7 NRST (io), 8 PC0 (io), 9 PC1 (io), 10 PC2 (io), 11 PC3 (io), 12 VSSA (power), 13 VDDA (power), 14 PA0_WKUP (io), 15 PA1 (io), 16 PA2 (io), 17 PA3 (io), 18 VSS (power), 19 VDD (power), 20 PA4 (io), 21 PA5 (io), 22 PA6 (io), 23 PA7 (io), 24 PC4 (io), 25 PC5 (io), 26 PB0 (io), 27 PB1 (io), 28 PB2/BOOT1 (io), 29 PB10 (io), 30 PB11 (io), 31 VCAP_1 (power), 32 VDD (power), 33 PB12 (io), 34 PB13 (io), 35 PB14 (io), 36 PB15 (io), 37 PC6 (io), 38 PC7 (io), 39 PC8 (io), 40 PC9 (io), 41 PA8 (io), 42 PA9 (io), 43 PA10 (io), 44 PA11 (io), 45 PA12 (io), 46 PA13 (JTMS-SWDIO) (io), 47 VCAP_2 (power), 48 VDD (power), 49 PA14 (JTCK/SWCLK) (io), 50 PA15 (io), 51 PC10 (io), 52 PC11 (io), 53 PC12 (io), 54 PD2 (io), 55 PB3 (JTDO/TRACESWO) (io), 56 PB4 (NJTRST) (io), 57 PB5 (io), 58 PB6 (io), 59 PB7 (io), 60 BOOT0, 61 PB8 (io), 62 PB9 (io), 63 VSS (power), 64 VDD (power)

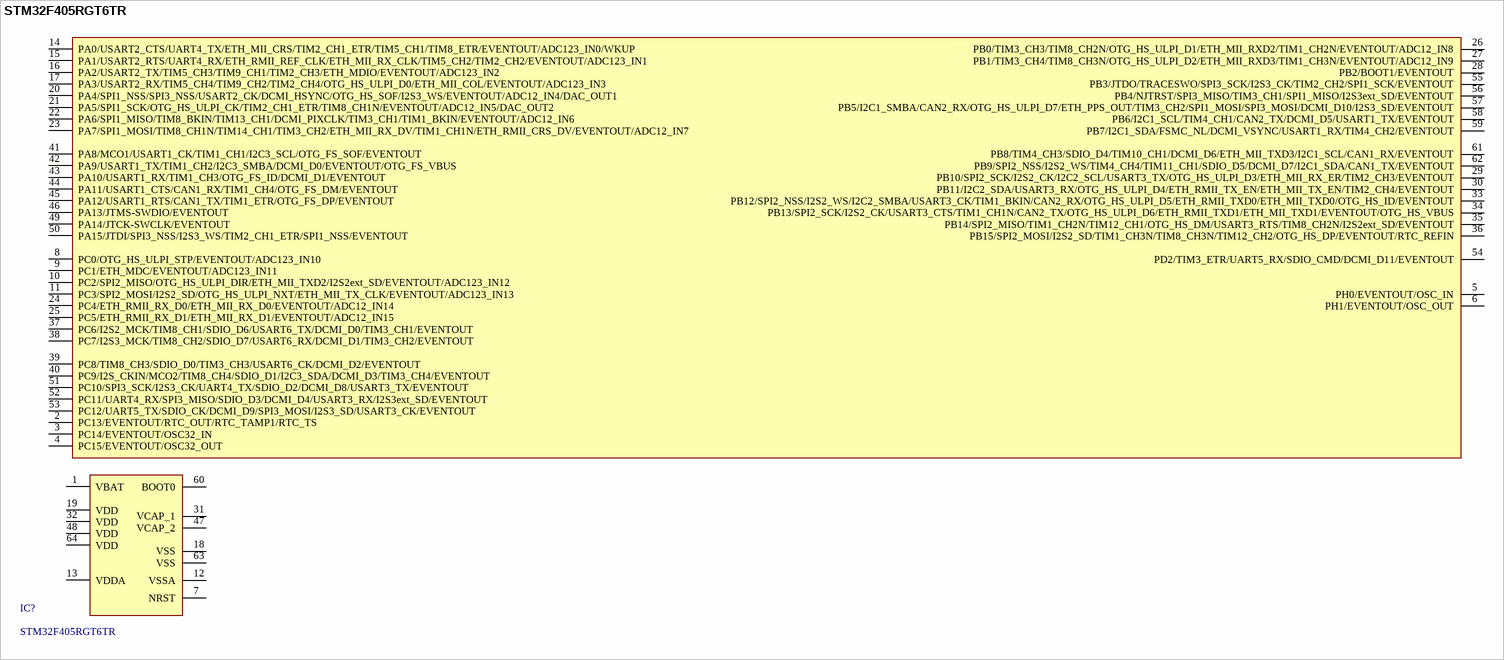
[diagram p8: symbol STM32F405RGT6TR]

## STM32F405RGT6TR
designator IC?
IC MCU 32-BIT 192kB FLASH ARM Cortex-M4 168MHZ LQFP-64; Manufacturer: STMicroelectronics; Connectivity: CAN,I2C,I2CFMP,I2S,LIN,SAI,SDIO,USART,UART,USB OTG,IrDA,SPI,I2S,QSPI,LCD; Number of I/Os: 51; Oscillator Type: Internal; Program Memory Size: 1024 kB; Peripherals: Reset,I2CFMP,LCD,DAC,ADC,DMA,Timer,WDT,SW,JTAG,I2C,UART,USART,SPI/I2S,SDIO,USB OTG,CAN,SAI,RTC; Voltage - Supply (Vcc/Vdd): 1.8V ~ 3.6V; Number of Timers/Counters: 17; Number of ADC Channels: 16; Number of SPI Channels: 3; Number of UART/USART Channels: 2/4; Number of USB Channels: 1; Library Control - Checked Footprint: Yes; Library Control - Person that Checked Footprint: Gustavo; Supplier 1: Mouser; Part Number: STM32F405RGT6TR; Category: ARM-Microcontrollers; Price: 1=15.84, 10=14.56, 100=12.30 (USD); Package / Case: LQFP-64; Operating Temperature: -40C ~ 85C; Speed: 168 MHz; Program Memory Type: Flash; Core Processor: ARM Cortex-M4; RAM Size: 192 kB; Core Size: 32-bit; Number of I2C Channels: 3; Number of Ethernet Channels: -; Series: STM32F405RG; Library Ref: Microcontrollers; Supplier Part Number 1: 511-STM32F405RGT6TR; Library Control - Checked Schematic: Yes; Library Control - Last Update: 19/08/2022 20:54; Library Control - Person that Checked Schematic: Gustavo; ComponentLink1Description: Datasheet; ComponentLink1URL: https://www.st.com/resource/en/datasheet/stm32f405rg.pdf; ComponentLink2Description: Mouser link; ComponentLink2URL: https://br.mouser.com/ProductDetail/STMicroelectronics/STM32F405RGT6TR?qs=MavH1QghrkHshpR6GkvPIg%3D%3D
footprint LQFP-64
pins: 1 VBAT (power), 2 PC13/EVENTOUT/RTC_OUT/RTC_TAMP1/RTC_TS, 3 PC14/EVENTOUT/OSC32_IN, 4 PC15/EVENTOUT/OSC32_OUT, 5 PH0/EVENTOUT/OSC_IN, 6 PH1/EVENTOUT/OSC_OUT, 7 NRST, 8 PC0/OTG_HS_ULPI_STP/EVENTOUT/ADC123_IN10, 9 PC1/ETH_MDC/EVENTOUT/ADC123_IN11, 10 PC2/SPI2_MISO/OTG_HS_ULPI_DIR/ETH_MII_TXD2/I2S2ext_SD/EVENTOUT/ADC123_IN12, 11 PC3/SPI2_MOSI/I2S2_SD/OTG_HS_ULPI_NXT/ETH_MII_TX_CLK/EVENTOUT/ADC123_IN13, 12 VSSA (power), 13 VDDA (power), 14 PA0/USART2_CTS/UART4_TX/ETH_MII_CRS/TIM2_CH1_ETR/TIM5_CH1/TIM8_ETR/EVENTOUT/ADC123_IN0/WKUP, 15 PA1/USART2_RTS/UART4_RX/ETH_RMII_REF_CLK/ETH_MII_RX_CLK/TIM5_CH2/TIM2_CH2/EVENTOUT/ADC123_IN1, 16 PA2/USART2_TX/TIM5_CH3/TIM9_CH1/TIM2_CH3/ETH_MDIO/EVENTOUT/ADC123_IN2, 17 PA3/USART2_RX/TIM5_CH4/TIM9_CH2/TIM2_CH4/OTG_HS_ULPI_D0/ETH_MII_COL/EVENTOUT/ADC123_IN3, 18 VSS (power), 19 VDD (power), 20 PA4/SPI1_NSS/SPI3_NSS/USART2_CK/DCMI_HSYNC/OTG_HS_SOF/I2S3_WS/EVENTOUT/ADC12_IN4/DAC_OUT1, 21 PA5/SPI1_SCK/OTG_HS_ULPI_CK/TIM2_CH1_ETR/TIM8_CH1N/EVENTOUT/ADC12_IN5/DAC_OUT2, 22 PA6/SPI1_MISO/TIM8_BKIN/TIM13_CH1/DCMI_PIXCLK/TIM3_CH1/TIM1_BKIN/EVENTOUT/ADC12_IN6, 23 PA7/SPI1_MOSI/TIM8_CH1N/TIM14_CH1/TIM3_CH2/ETH_MII_RX_DV/TIM1_CH1N/ETH_RMII_CRS_DV/EVENTOUT/ADC12_IN7, 24 PC4/ETH_RMII_RX_D0/ETH_MII_RX_D0/EVENTOUT/ADC12_IN14, 25 PC5/ETH_RMII_RX_D1/ETH_MII_RX_D1/EVENTOUT/ADC12_IN15, 26 PB0/TIM3_CH3/TIM8_CH2N/OTG_HS_ULPI_D1/ETH_MII_RXD2/TIM1_CH2N/EVENTOUT/ADC12_IN8, 27 PB1/TIM3_CH4/TIM8_CH3N/OTG_HS_ULPI_D2/ETH_MII_RXD3/TIM1_CH3N/EVENTOUT/ADC12_IN9, 28 PB2/BOOT1/EVENTOUT, 29 PB10/SPI2_SCK/I2S2_CK/I2C2_SCL/USART3_TX/OTG_HS_ULPI_D3/ETH_MII_RX_ER/TIM2_CH3/EVENTOUT, 30 PB11/I2C2_SDA/USART3_RX/OTG_HS_ULPI_D4/ETH_RMII_TX_EN/ETH_MII_TX_EN/TIM2_CH4/EVENTOUT, 31 VCAP_1 (power), 32 VDD (power), 33 PB12/SPI2_NSS/I2S2_WS/I2C2_SMBA/USART3_CK/TIM1_BKIN/CAN2_RX/OTG_HS_ULPI_D5/ETH_RMII_TXD0/ETH_MII_TXD0/OTG_HS_ID/EVENTOUT, 34 PB13/SPI2_SCK/I2S2_CK/USART3_CTS/TIM1_CH1N/CAN2_TX/OTG_HS_ULPI_D6/ETH_RMII_TXD1/ETH_MII_TXD1/EVENTOUT/OTG_HS_VBUS, 35 PB14/SPI2_MISO/TIM1_CH2N/TIM12_CH1/OTG_HS_DM/USART3_RTS/TIM8_CH2N/I2S2ext_SD/EVENTOUT, 36 PB15/SPI2_MOSI/I2S2_SD/TIM1_CH3N/TIM8_CH3N/TIM12_CH2/OTG_HS_DP/EVENTOUT/RTC_REFIN, 37 PC6/I2S2_MCK/TIM8_CH1/SDIO_D6/USART6_TX/DCMI_D0/TIM3_CH1/EVENTOUT, 38 PC7/I2S3_MCK/TIM8_CH2/SDIO_D7/USART6_RX/DCMI_D1/TIM3_CH2/EVENTOUT, 39 PC8/TIM8_CH3/SDIO_D0/TIM3_CH3/USART6_CK/DCMI_D2/EVENTOUT, 40 PC9/I2S_CKIN/MCO2/TIM8_CH4/SDIO_D1/I2C3_SDA/DCMI_D3/TIM3_CH4/EVENTOUT, 41 PA8/MCO1/USART1_CK/TIM1_CH1/I2C3_SCL/OTG_FS_SOF/EVENTOUT, 42 PA9/USART1_TX/TIM1_CH2/I2C3_SMBA/DCMI_D0/EVENTOUT/OTG_FS_VBUS, 43 PA10/USART1_RX/TIM1_CH3/OTG_FS_ID/DCMI_D1/EVENTOUT, 44 PA11/USART1_CTS/CAN1_RX/TIM1_CH4/OTG_FS_DM/EVENTOUT, 45 PA12/USART1_RTS/CAN1_TX/TIM1_ETR/OTG_FS_DP/EVENTOUT, 46 PA13/JTMS-SWDIO/EVENTOUT, 47 VCAP_2 (power), 48 VDD (power), 49 PA14/JTCK-SWCLK/EVENTOUT, 50 PA15/JTDI/SPI3_NSS/I2S3_WS/TIM2_CH1_ETR/SPI1_NSS/EVENTOUT "PA15(JTDI)/JTDI/SPI3_NSS/I2S3_WS/TIM2_CH1_ETR/SPI1_NSS/EVENTOUT", 51 PC10/SPI3_SCK/I2S3_CK/UART4_TX/SDIO_D2/DCMI_D8/USART3_TX/EVENTOUT, 52 PC11/UART4_RX/SPI3_MISO/SDIO_D3/DCMI_D4/USART3_RX/I2S3ext_SD/EVENTOUT, 53 PC12/UART5_TX/SDIO_CK/DCMI_D9/SPI3_MOSI/I2S3_SD/USART3_CK/EVENTOUT, 54 PD2/TIM3_ETR/UART5_RX/SDIO_CMD/DCMI_D11/EVENTOUT, 55 PB3/JTDO/TRACESWO/SPI3_SCK/I2S3_CK/TIM2_CH2/SPI1_SCK/EVENTOUT, 56 PB4/NJTRST/SPI3_MISO/TIM3_CH1/SPI1_MISO/I2S3ext_SD/EVENTOUT, 57 PB5/I2C1_SMBA/CAN2_RX/OTG_HS_ULPI_D7/ETH_PPS_OUT/TIM3_CH2/SPI1_MOSI/SPI3_MOSI/DCMI_D10/I2S3_SD/EVENTOUT, 58 PB6/I2C1_SCL/TIM4_CH1/CAN2_TX/DCMI_D5/USART1_TX/EVENTOUT, 59 PB7/I2C1_SDA/FSMC_NL/DCMI_VSYNC/USART1_RX/TIM4_CH2/EVENTOUT, 60 BOOT0 "BOOT0/VPP", 61 PB8/TIM4_CH3/SDIO_D4/TIM10_CH1/DCMI_D6/ETH_MII_TXD3/I2C1_SCL/CAN1_RX/EVENTOUT, 62 PB9/SPI2_NSS/I2S2_WS/TIM4_CH4/TIM11_CH1/SDIO_D5/DCMI_D7/I2C1_SDA/CAN1_TX/EVENTOUT, 63 VSS (power), 64 VDD (power)

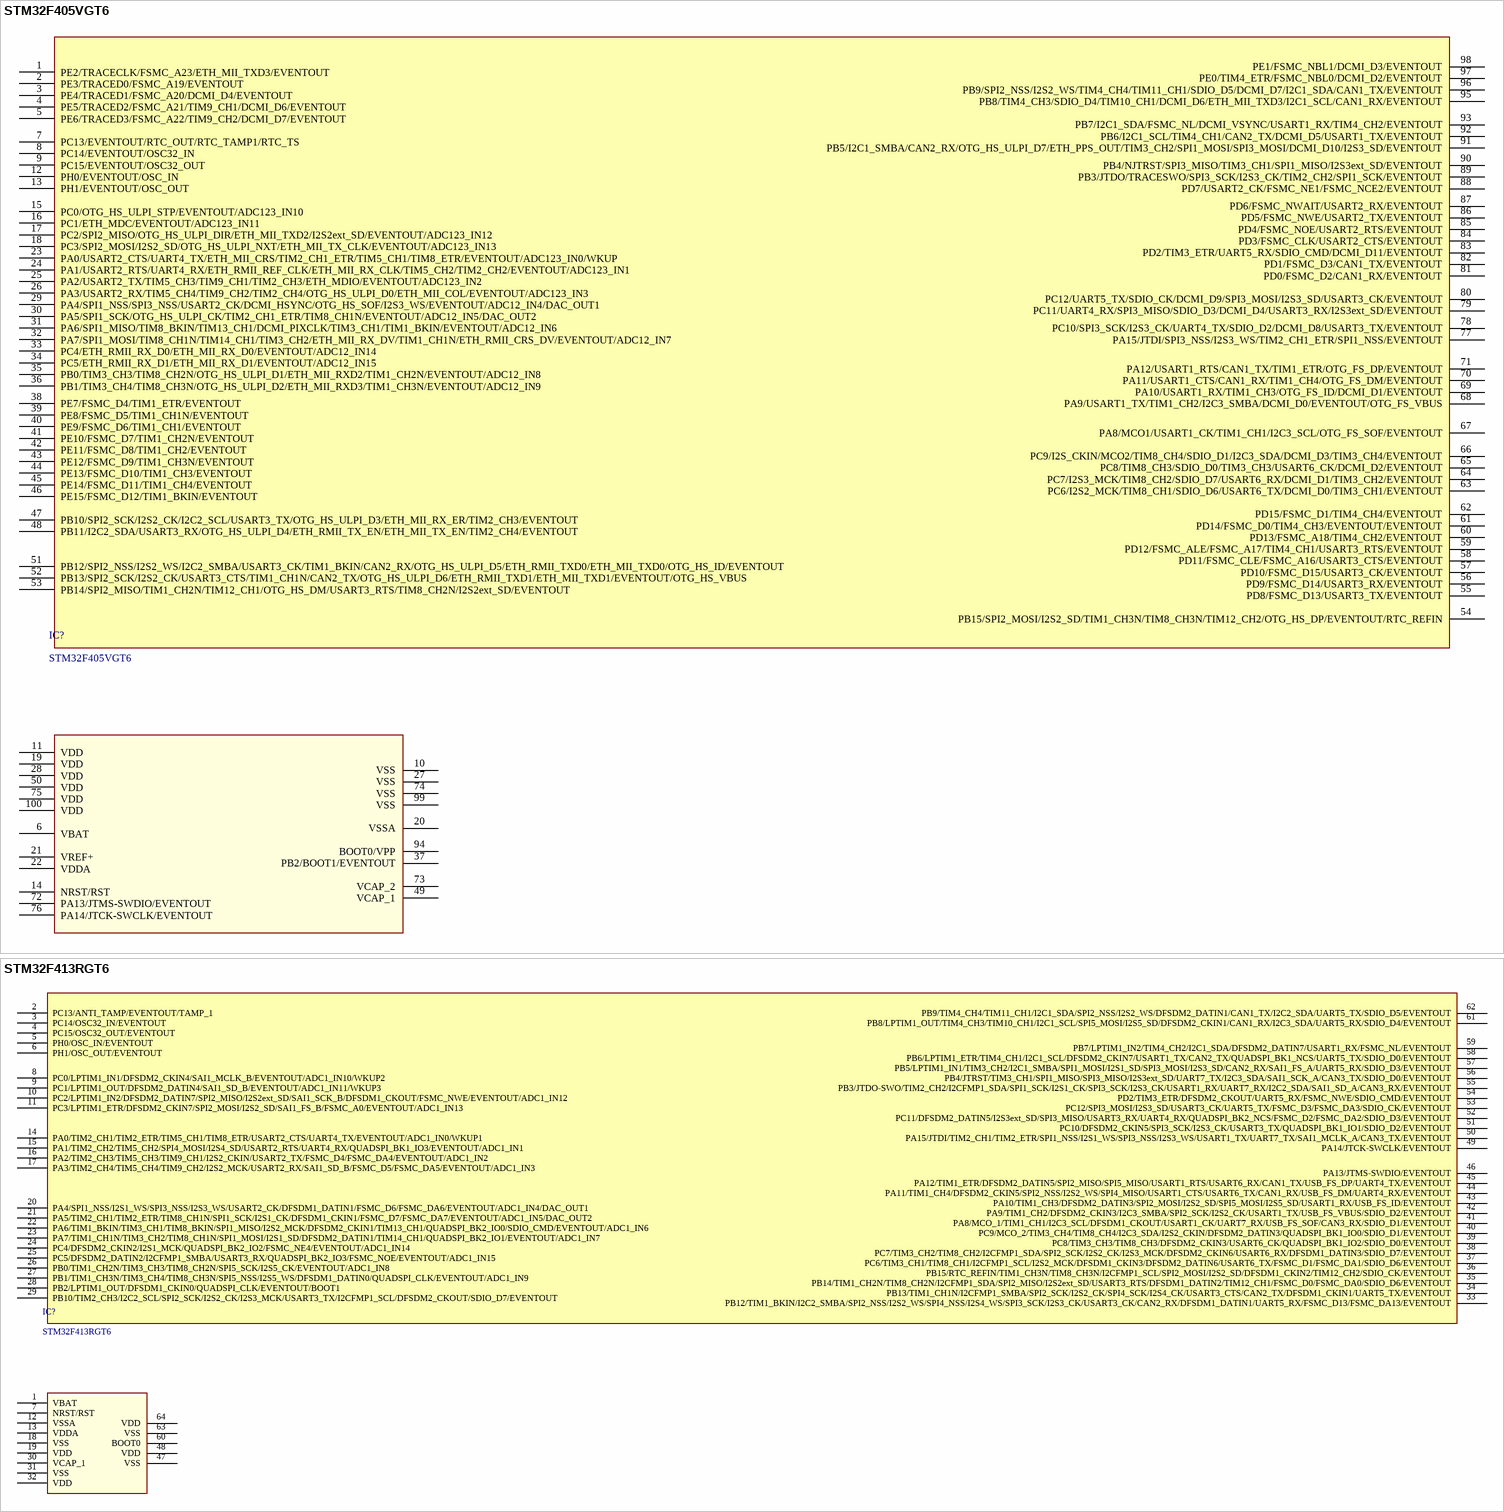
[diagram p9: symbols STM32F405VGT6 to STM32F413RGT6]

## STM32F405VGT6
designator IC?
IC MCU 32-BIT 1024kB FLASH ARM Cortex-M4 168MHZ LQFP-100; Manufacturer: STMicroelectronics; Connectivity: I2C,SPI,USB OTG,CAN,IrDA,UART,USART,LIN,MII/RMII,I2S,SDIO; Number of I/Os: 82; Oscillator Type: Internal; Peripherals: Reset,PWM,WDT,DMA,RTC,I2C,SPI,USB  OTG,USART,UART,CAN,SDIO,Ethernet,JTAG,SW; RAM Size: 192 kB; Voltage - Supply (Vcc/Vdd): 1.8V ~ 3.6V; Number of Timers/Counters: 17; Number of ADC Channels: 16; Number of SPI Channels: 3; Number of UART/USART Channels: 2/4; Number of Ethernet Channels: 1; Number of USB Channels: 2; Library Control - Checked Footprint: Yes; Library Control - Last Project that Used: Follow-Final; Library Control - Person that Checked Footprint: Gustavo; Library Control - Person that did the Last Update Footprint: Mateus(Dimas); Library Control - Person that did the Last Update Schematic: Maria Laura e Stéfany (Ster); Supplier 1: Mouser; Part Number: STM32F405VGT6; Category: Microcontrollers; Price: 1=16.93, 10=15.57, 100=13.15 (USD); Package / Case: LQFP-100; Operating Temperature: -40C ~ 85C; Speed: 168 MHz; Program Memory Type: Flash; Program Memory Size: 1024 kB; Core Processor: ARM Cortex-M4; Core Size: 32-bit; Number of I2C Channels: 3; Series: STM32F4; Library Ref: Microcontroller; Supplier Part Number 1: 511-STM32F405VGT6; Library Control - Checked Schematic: Yes; Library Control - Last Update: 19/08/2022 20:55; Library Control - Person that Checked Schematic: Gustavo; ComponentLink1Description: Mouser Link; ComponentLink1URL: https://br.mouser.com/ProductDetail/STMicroelectronics/STM32F405VGT6?qs=Z8%252BeY1k3TIJiWie7HpfDCQ%3D%3D; ComponentLink2Description: Datasheet; ComponentLink2URL: https://br.mouser.com/datasheet/2/389/dm00037051-1797298.pdf
footprint LQFP-100 (Quad Flat Pack (QFP), 0.50 mm pitch; square, 25 pin X 25 pin, 14.00 mm L X 14.00 mm W X 1.60 mm H body)
pins: 1 PE2/TRACECLK/FSMC_A23/ETH_MII_TXD3/EVENTOUT, 2 PE3/TRACED0/FSMC_A19/EVENTOUT, 3 PE4/TRACED1/FSMC_A20/DCMI_D4/EVENTOUT, 4 PE5/TRACED2/FSMC_A21/TIM9_CH1/DCMI_D6/EVENTOUT, 5 PE6/TRACED3/FSMC_A22/TIM9_CH2/DCMI_D7/EVENTOUT, 6 VBAT, 7 PC13/EVENTOUT/RTC_OUT/RTC_TAMP1/RTC_TS, 8 PC14/EVENTOUT/OSC32_IN, 9 PC15/EVENTOUT/OSC32_OUT, 10 VSS, 11 VDD, 12 PH0/EVENTOUT/OSC_IN, 13 PH1/EVENTOUT/OSC_OUT, 14 NRST/RST, 15 PC0/OTG_HS_ULPI_STP/EVENTOUT/ADC123_IN10, 16 PC1/ETH_MDC/EVENTOUT/ADC123_IN11, 17 PC2/SPI2_MISO/OTG_HS_ULPI_DIR/ETH_MII_TXD2/I2S2ext_SD/EVENTOUT/ADC123_IN12, 18 PC3/SPI2_MOSI/I2S2_SD/OTG_HS_ULPI_NXT/ETH_MII_TX_CLK/EVENTOUT/ADC123_IN13, 19 VDD, 20 VSSA, 21 VREF+, 22 VDDA, 23 PA0/USART2_CTS/UART4_TX/ETH_MII_CRS/TIM2_CH1_ETR/TIM5_CH1/TIM8_ETR/EVENTOUT/ADC123_IN0/WKUP, 24 PA1/USART2_RTS/UART4_RX/ETH_RMII_REF_CLK/ETH_MII_RX_CLK/TIM5_CH2/TIM2_CH2/EVENTOUT/ADC123_IN1, 25 PA2/USART2_TX/TIM5_CH3/TIM9_CH1/TIM2_CH3/ETH_MDIO/EVENTOUT/ADC123_IN2, 26 PA3/USART2_RX/TIM5_CH4/TIM9_CH2/TIM2_CH4/OTG_HS_ULPI_D0/ETH_MII_COL/EVENTOUT/ADC123_IN3, 27 VSS, 28 VDD, 29 PA4/SPI1_NSS/SPI3_NSS/USART2_CK/DCMI_HSYNC/OTG_HS_SOF/I2S3_WS/EVENTOUT/ADC12_IN4/DAC_OUT1, 30 PA5/SPI1_SCK/OTG_HS_ULPI_CK/TIM2_CH1_ETR/TIM8_CH1N/EVENTOUT/ADC12_IN5/DAC_OUT2, 31 PA6/SPI1_MISO/TIM8_BKIN/TIM13_CH1/DCMI_PIXCLK/TIM3_CH1/TIM1_BKIN/EVENTOUT/ADC12_IN6, 32 PA7/SPI1_MOSI/TIM8_CH1N/TIM14_CH1/TIM3_CH2/ETH_MII_RX_DV/TIM1_CH1N/ETH_RMII_CRS_DV/EVENTOUT/ADC12_IN7, 33 PC4/ETH_RMII_RX_D0/ETH_MII_RX_D0/EVENTOUT/ADC12_IN14, 34 PC5/ETH_RMII_RX_D1/ETH_MII_RX_D1/EVENTOUT/ADC12_IN15, 35 PB0/TIM3_CH3/TIM8_CH2N/OTG_HS_ULPI_D1/ETH_MII_RXD2/TIM1_CH2N/EVENTOUT/ADC12_IN8, 36 PB1/TIM3_CH4/TIM8_CH3N/OTG_HS_ULPI_D2/ETH_MII_RXD3/TIM1_CH3N/EVENTOUT/ADC12_IN9, 37 PB2/BOOT1/EVENTOUT, 38 PE7/FSMC_D4/TIM1_ETR/EVENTOUT, 39 PE8/FSMC_D5/TIM1_CH1N/EVENTOUT, 40 PE9/FSMC_D6/TIM1_CH1/EVENTOUT, 41 PE10/FSMC_D7/TIM1_CH2N/EVENTOUT, 42 PE11/FSMC_D8/TIM1_CH2/EVENTOUT, 43 PE12/FSMC_D9/TIM1_CH3N/EVENTOUT, 44 PE13/FSMC_D10/TIM1_CH3/EVENTOUT, 45 PE14/FSMC_D11/TIM1_CH4/EVENTOUT, 46 PE15/FSMC_D12/TIM1_BKIN/EVENTOUT, 47 PB10/SPI2_SCK/I2S2_CK/I2C2_SCL/USART3_TX/OTG_HS_ULPI_D3/ETH_MII_RX_ER/TIM2_CH3/EVENTOUT, 48 PB11/I2C2_SDA/USART3_RX/OTG_HS_ULPI_D4/ETH_RMII_TX_EN/ETH_MII_TX_EN/TIM2_CH4/EVENTOUT, 49 VCAP_1, 50 VDD, 51 PB12/SPI2_NSS/I2S2_WS/I2C2_SMBA/USART3_CK/TIM1_BKIN/CAN2_RX/OTG_HS_ULPI_D5/ETH_RMII_TXD0/ETH_MII_TXD0/OTG_HS_ID/EVENTOUT, 52 PB13/SPI2_SCK/I2S2_CK/USART3_CTS/TIM1_CH1N/CAN2_TX/OTG_HS_ULPI_D6/ETH_RMII_TXD1/ETH_MII_TXD1/EVENTOUT/OTG_HS_VBUS, 53 PB14/SPI2_MISO/TIM1_CH2N/TIM12_CH1/OTG_HS_DM/USART3_RTS/TIM8_CH2N/I2S2ext_SD/EVENTOUT, 54 PB15/SPI2_MOSI/I2S2_SD/TIM1_CH3N/TIM8_CH3N/TIM12_CH2/OTG_HS_DP/EVENTOUT/RTC_REFIN, 55 PD8/FSMC_D13/USART3_TX/EVENTOUT, 56 PD9/FSMC_D14/USART3_RX/EVENTOUT, 57 PD10/FSMC_D15/USART3_CK/EVENTOUT, 58 PD11/FSMC_CLE/FSMC_A16/USART3_CTS/EVENTOUT, 59 PD12/FSMC_ALE/FSMC_A17/TIM4_CH1/USART3_RTS/EVENTOUT, 60 PD13/FSMC_A18/TIM4_CH2/EVENTOUT, 61 PD14/FSMC_D0/TIM4_CH3/EVENTOUT/EVENTOUT, 62 PD15/FSMC_D1/TIM4_CH4/EVENTOUT, 63 PC6/I2S2_MCK/TIM8_CH1/SDIO_D6/USART6_TX/DCMI_D0/TIM3_CH1/EVENTOUT, 64 PC7/I2S3_MCK/TIM8_CH2/SDIO_D7/USART6_RX/DCMI_D1/TIM3_CH2/EVENTOUT, 65 PC8/TIM8_CH3/SDIO_D0/TIM3_CH3/USART6_CK/DCMI_D2/EVENTOUT, 66 PC9/I2S_CKIN/MCO2/TIM8_CH4/SDIO_D1/I2C3_SDA/DCMI_D3/TIM3_CH4/EVENTOUT, 67 PA8/MCO1/USART1_CK/TIM1_CH1/I2C3_SCL/OTG_FS_SOF/EVENTOUT, 68 PA9/USART1_TX/TIM1_CH2/I2C3_SMBA/DCMI_D0/EVENTOUT/OTG_FS_VBUS, 69 PA10/USART1_RX/TIM1_CH3/OTG_FS_ID/DCMI_D1/EVENTOUT, 70 PA11/USART1_CTS/CAN1_RX/TIM1_CH4/OTG_FS_DM/EVENTOUT, 71 PA12/USART1_RTS/CAN1_TX/TIM1_ETR/OTG_FS_DP/EVENTOUT, 72 PA13/JTMS-SWDIO/EVENTOUT, 73 VCAP_2, 74 VSS, 75 VDD, 76 PA14/JTCK-SWCLK/EVENTOUT, 77 PA15/JTDI/SPI3_NSS/I2S3_WS/TIM2_CH1_ETR/SPI1_NSS/EVENTOUT, 78 PC10/SPI3_SCK/I2S3_CK/UART4_TX/SDIO_D2/DCMI_D8/USART3_TX/EVENTOUT, 79 PC11/UART4_RX/SPI3_MISO/SDIO_D3/DCMI_D4/USART3_RX/I2S3ext_SD/EVENTOUT, 80 PC12/UART5_TX/SDIO_CK/DCMI_D9/SPI3_MOSI/I2S3_SD/USART3_CK/EVENTOUT, 81 PD0/FSMC_D2/CAN1_RX/EVENTOUT, 82 PD1/FSMC_D3/CAN1_TX/EVENTOUT, 83 PD2/TIM3_ETR/UART5_RX/SDIO_CMD/DCMI_D11/EVENTOUT, 84 PD3/FSMC_CLK/USART2_CTS/EVENTOUT, 85 PD4/FSMC_NOE/USART2_RTS/EVENTOUT, 86 PD5/FSMC_NWE/USART2_TX/EVENTOUT, 87 PD6/FSMC_NWAIT/USART2_RX/EVENTOUT, 88 PD7/USART2_CK/FSMC_NE1/FSMC_NCE2/EVENTOUT, 89 PB3/JTDO/TRACESWO/SPI3_SCK/I2S3_CK/TIM2_CH2/SPI1_SCK/EVENTOUT, 90 PB4/NJTRST/SPI3_MISO/TIM3_CH1/SPI1_MISO/I2S3ext_SD/EVENTOUT, 91 PB5/I2C1_SMBA/CAN2_RX/OTG_HS_ULPI_D7/ETH_PPS_OUT/TIM3_CH2/SPI1_MOSI/SPI3_MOSI/DCMI_D10/I2S3_SD/EVENTOUT, 92 PB6/I2C1_SCL/TIM4_CH1/CAN2_TX/DCMI_D5/USART1_TX/EVENTOUT, 93 PB7/I2C1_SDA/FSMC_NL/DCMI_VSYNC/USART1_RX/TIM4_CH2/EVENTOUT, 94 BOOT0/VPP, 95 PB8/TIM4_CH3/SDIO_D4/TIM10_CH1/DCMI_D6/ETH_MII_TXD3/I2C1_SCL/CAN1_RX/EVENTOUT, 96 PB9/SPI2_NSS/I2S2_WS/TIM4_CH4/TIM11_CH1/SDIO_D5/DCMI_D7/I2C1_SDA/CAN1_TX/EVENTOUT, 97 PE0/TIM4_ETR/FSMC_NBL0/DCMI_D2/EVENTOUT, 98 PE1/FSMC_NBL1/DCMI_D3/EVENTOUT, 99 VSS, 100 VDD

## STM32F413RGT6
designator IC?
IC MCU 32-BIT1024kB FLASH ARM Cortex-M4 100MHZ LQFP-48; Manufacturer: STMicroelectronics; Connectivity: CAN,I2C,I2CFMP,I2S,LIN,SAI,SDIO,USART,UART,USB OTG,IrDA,SPI,I2S,QSPI,LCD; Number of I/Os: 50; Oscillator Type: Internal; Program Memory Size: 1024 kB; Peripherals: Reset,I2CFMP,LCD,DAC,ADC,DMA,Timer,WDT,SW,JTAG,I2C,UART,USART,SPI/I2S,SDIO,USB OTG,CAN,SAI,RTC; RAM Size: 320 kB; Voltage - Supply (Vcc/Vdd): 1.7V ~ 3.6V; Core Size: 32-bit; Number of Timers/Counters: 15; Number of ADC Channels: 16; Number of SPI Channels: 5; Number of I2C Channels: 3; Number of UART/USART Channels: 3/4; Number of USB Channels: 1; Library Control - Checked Footprint: Yes; Library Control - Person that Checked Footprint: Gustavo; Library Control - Person that did the Last Update Footprint: Stéfany (Ster); Library Control - Person that did the Last Update Schematic: Maria Laura e Stéfany (Ster); Supplier 1: Mouser; Part Number: STM32F413RGT6; Category: ARM-Microcontrollers; Price: 1=14.34, 10=13.19, 100=11.14 (USD); Package / Case: LQFP-64; Operating Temperature: -40C ~ 85C; Speed: 100 MHz; Program Memory Type: Flash; Core Processor: ARM Cortex-M4; Number of Ethernet Channels: -; Series: STM32F4; Library Ref: Microcontrollers; Supplier Part Number 1: 511-STM32F413RGT6; Library Control - Checked Schematic: Yes; Library Control - Last Update: 19/08/2022 20:57; Library Control - Person that Checked Schematic: Gustavo; ComponentLink1Description: Datasheet; ComponentLink1URL: https://br.mouser.com/datasheet/2/389/dm00282249-1798869.pdf; ComponentLink2Description: Mouser link; ComponentLink2URL: https://br.mouser.com/ProductDetail/STMicroelectronics/STM32F413RGT6?qs=FNcb6ahWXRyREY%252BFzgYY7A%3D%3D
footprint LQFP-64
pins: 1 VBAT, 2 PC13/ANTI_TAMP/EVENTOUT/TAMP_1, 3 PC14/OSC32_IN/EVENTOUT, 4 PC15/OSC32_OUT/EVENTOUT, 5 PH0/OSC_IN/EVENTOUT, 6 PH1/OSC_OUT/EVENTOUT, 7 NRST/RST, 8 PC0/LPTIM1_IN1/DFSDM2_CKIN4/SAI1_MCLK_B/EVENTOUT/ADC1_IN10/WKUP2, 9 PC1/LPTIM1_OUT/DFSDM2_DATIN4/SAI1_SD_B/EVENTOUT/ADC1_IN11/WKUP3, 10 PC2/LPTIM1_IN2/DFSDM2_DATIN7/SPI2_MISO/I2S2ext_SD/SAI1_SCK_B/DFSDM1_CKOUT/FSMC_NWE/EVENTOUT/ADC1_IN12, 11 PC3/LPTIM1_ETR/DFSDM2_CKIN7/SPI2_MOSI/I2S2_SD/SAI1_FS_B/FSMC_A0/EVENTOUT/ADC1_IN13, 12 VSSA, 13 VDDA, 14 PA0/TIM2_CH1/TIM2_ETR/TIM5_CH1/TIM8_ETR/USART2_CTS/UART4_TX/EVENTOUT/ADC1_IN0/WKUP1, 15 PA1/TIM2_CH2/TIM5_CH2/SPI4_MOSI/I2S4_SD/USART2_RTS/UART4_RX/QUADSPI_BK1_IO3/EVENTOUT/ADC1_IN1, 16 PA2/TIM2_CH3/TIM5_CH3/TIM9_CH1/I2S2_CKIN/USART2_TX/FSMC_D4/FSMC_DA4/EVENTOUT/ADC1_IN2, 17 PA3/TIM2_CH4/TIM5_CH4/TIM9_CH2/I2S2_MCK/USART2_RX/SAI1_SD_B/FSMC_D5/FSMC_DA5/EVENTOUT/ADC1_IN3, 18 VSS, 19 VDD, 20 PA4/SPI1_NSS/I2S1_WS/SPI3_NSS/I2S3_WS/USART2_CK/DFSDM1_DATIN1/FSMC_D6/FSMC_DA6/EVENTOUT/ADC1_IN4/DAC_OUT1, 21 PA5/TIM2_CH1/TIM2_ETR/TIM8_CH1N/SPI1_SCK/I2S1_CK/DFSDM1_CKIN1/FSMC_D7/FSMC_DA7/EVENTOUT/ADC1_IN5/DAC_OUT2, 22 PA6/TIM1_BKIN/TIM3_CH1/TIM8_BKIN/SPI1_MISO/I2S2_MCK/DFSDM2_CKIN1/TIM13_CH1/QUADSPI_BK2_IO0/SDIO_CMD/EVENTOUT/ADC1_IN6, 23 PA7/TIM1_CH1N/TIM3_CH2/TIM8_CH1N/SPI1_MOSI/I2S1_SD/DFSDM2_DATIN1/TIM14_CH1/QUADSPI_BK2_IO1/EVENTOUT/ADC1_IN7, 24 PC4/DFSDM2_CKIN2/I2S1_MCK/QUADSPI_BK2_IO2/FSMC_NE4/EVENTOUT/ADC1_IN14, 25 PC5/DFSDM2_DATIN2/I2CFMP1_SMBA/USART3_RX/QUADSPI_BK2_IO3/FSMC_NOE/EVENTOUT/ADC1_IN15, 26 PB0/TIM1_CH2N/TIM3_CH3/TIM8_CH2N/SPI5_SCK/I2S5_CK/EVENTOUT/ADC1_IN8, 27 PB1/TIM1_CH3N/TIM3_CH4/TIM8_CH3N/SPI5_NSS/I2S5_WS/DFSDM1_DATIN0/QUADSPI_CLK/EVENTOUT/ADC1_IN9, 28 PB2/LPTIM1_OUT/DFSDM1_CKIN0/QUADSPI_CLK/EVENTOUT/BOOT1, 29 PB10/TIM2_CH3/I2C2_SCL/SPI2_SCK/I2S2_CK/I2S3_MCK/USART3_TX/I2CFMP1_SCL/DFSDM2_CKOUT/SDIO_D7/EVENTOUT, 30 VCAP_1, 31 VSS, 32 VDD, 33 PB12/TIM1_BKIN/I2C2_SMBA/SPI2_NSS/I2S2_WS/SPI4_NSS/I2S4_WS/SPI3_SCK/I2S3_CK/USART3_CK/CAN2_RX/DFSDM1_DATIN1/UART5_RX/FSMC_D13/FSMC_DA13/EVENTOUT, 34 PB13/TIM1_CH1N/I2CFMP1_SMBA/SPI2_SCK/I2S2_CK/SPI4_SCK/I2S4_CK/USART3_CTS/CAN2_TX/DFSDM1_CKIN1/UART5_TX/EVENTOUT, 35 PB14/TIM1_CH2N/TIM8_CH2N/I2CFMP1_SDA/SPI2_MISO/I2S2ext_SD/USART3_RTS/DFSDM1_DATIN2/TIM12_CH1/FSMC_D0/FSMC_DA0/SDIO_D6/EVENTOUT, 36 PB15/RTC_REFIN/TIM1_CH3N/TIM8_CH3N/I2CFMP1_SCL/SPI2_MOSI/I2S2_SD/DFSDM1_CKIN2/TIM12_CH2/SDIO_CK/EVENTOUT, 37 PC6/TIM3_CH1/TIM8_CH1/I2CFMP1_SCL/I2S2_MCK/DFSDM1_CKIN3/DFSDM2_DATIN6/USART6_TX/FSMC_D1/FSMC_DA1/SDIO_D6/EVENTOUT, 38 PC7/TIM3_CH2/TIM8_CH2/I2CFMP1_SDA/SPI2_SCK/I2S2_CK/I2S3_MCK/DFSDM2_CKIN6/USART6_RX/DFSDM1_DATIN3/SDIO_D7/EVENTOUT, 39 PC8/TIM3_CH3/TIM8_CH3/DFSDM2_CKIN3/USART6_CK/QUADSPI_BK1_IO2/SDIO_D0/EVENTOUT, 40 PC9/MCO_2/TIM3_CH4/TIM8_CH4/I2C3_SDA/I2S2_CKIN/DFSDM2_DATIN3/QUADSPI_BK1_IO0/SDIO_D1/EVENTOUT, 41 PA8/MCO_1/TIM1_CH1/I2C3_SCL/DFSDM1_CKOUT/USART1_CK/UART7_RX/USB_FS_SOF/CAN3_RX/SDIO_D1/EVENTOUT, 42 PA9/TIM1_CH2/DFSDM2_CKIN3/I2C3_SMBA/SPI2_SCK/I2S2_CK/USART1_TX/USB_FS_VBUS/SDIO_D2/EVENTOUT, 43 PA10/TIM1_CH3/DFSDM2_DATIN3/SPI2_MOSI/I2S2_SD/SPI5_MOSI/I2S5_SD/USART1_RX/USB_FS_ID/EVENTOUT, 44 PA11/TIM1_CH4/DFSDM2_CKIN5/SPI2_NSS/I2S2_WS/SPI4_MISO/USART1_CTS/USART6_TX/CAN1_RX/USB_FS_DM/UART4_RX/EVENTOUT, 45 PA12/TIM1_ETR/DFSDM2_DATIN5/SPI2_MISO/SPI5_MISO/USART1_RTS/USART6_RX/CAN1_TX/USB_FS_DP/UART4_TX/EVENTOUT, 46 PA13/JTMS-SWDIO/EVENTOUT, 47 VSS, 48 VDD, 49 PA14/JTCK-SWCLK/EVENTOUT, 50 PA15/JTDI/TIM2_CH1/TIM2_ETR/SPI1_NSS/I2S1_WS/SPI3_NSS/I2S3_WS/USART1_TX/UART7_TX/SAI1_MCLK_A/CAN3_TX/EVENTOUT, 51 PC10/DFSDM2_CKIN5/SPI3_SCK/I2S3_CK/USART3_TX/QUADSPI_BK1_IO1/SDIO_D2/EVENTOUT, 52 PC11/DFSDM2_DATIN5/I2S3ext_SD/SPI3_MISO/USART3_RX/UART4_RX/QUADSPI_BK2_NCS/FSMC_D2/FSMC_DA2/SDIO_D3/EVENTOUT, 53 PC12/SPI3_MOSI/I2S3_SD/USART3_CK/UART5_TX/FSMC_D3/FSMC_DA3/SDIO_CK/EVENTOUT, 54 PD2/TIM3_ETR/DFSDM2_CKOUT/UART5_RX/FSMC_NWE/SDIO_CMD/EVENTOUT, 55 PB3/JTDO-SWO/TIM2_CH2/I2CFMP1_SDA/SPI1_SCK/I2S1_CK/SPI3_SCK/I2S3_CK/USART1_RX/UART7_RX/I2C2_SDA/SAI1_SD_A/CAN3_RX/EVENTOUT, 56 PB4/JTRST/TIM3_CH1/SPI1_MISO/SPI3_MISO/I2S3ext_SD/UART7_TX/I2C3_SDA/SAI1_SCK_A/CAN3_TX/SDIO_D0/EVENTOUT, 57 PB5/LPTIM1_IN1/TIM3_CH2/I2C1_SMBA/SPI1_MOSI/I2S1_SD/SPI3_MOSI/I2S3_SD/CAN2_RX/SAI1_FS_A/UART5_RX/SDIO_D3/EVENTOUT, 58 PB6/LPTIM1_ETR/TIM4_CH1/I2C1_SCL/DFSDM2_CKIN7/USART1_TX/CAN2_TX/QUADSPI_BK1_NCS/UART5_TX/SDIO_D0/EVENTOUT, 59 PB7/LPTIM1_IN2/TIM4_CH2/I2C1_SDA/DFSDM2_DATIN7/USART1_RX/FSMC_NL/EVENTOUT, 60 BOOT0, 61 PB8/LPTIM1_OUT/TIM4_CH3/TIM10_CH1/I2C1_SCL/SPI5_MOSI/I2S5_SD/DFSDM2_CKIN1/CAN1_RX/I2C3_SDA/UART5_RX/SDIO_D4/EVENTOUT, 62 PB9/TIM4_CH4/TIM11_CH1/I2C1_SDA/SPI2_NSS/I2S2_WS/DFSDM2_DATIN1/CAN1_TX/I2C2_SDA/UART5_TX/SDIO_D5/EVENTOUT, 63 VSS, 64 VDD

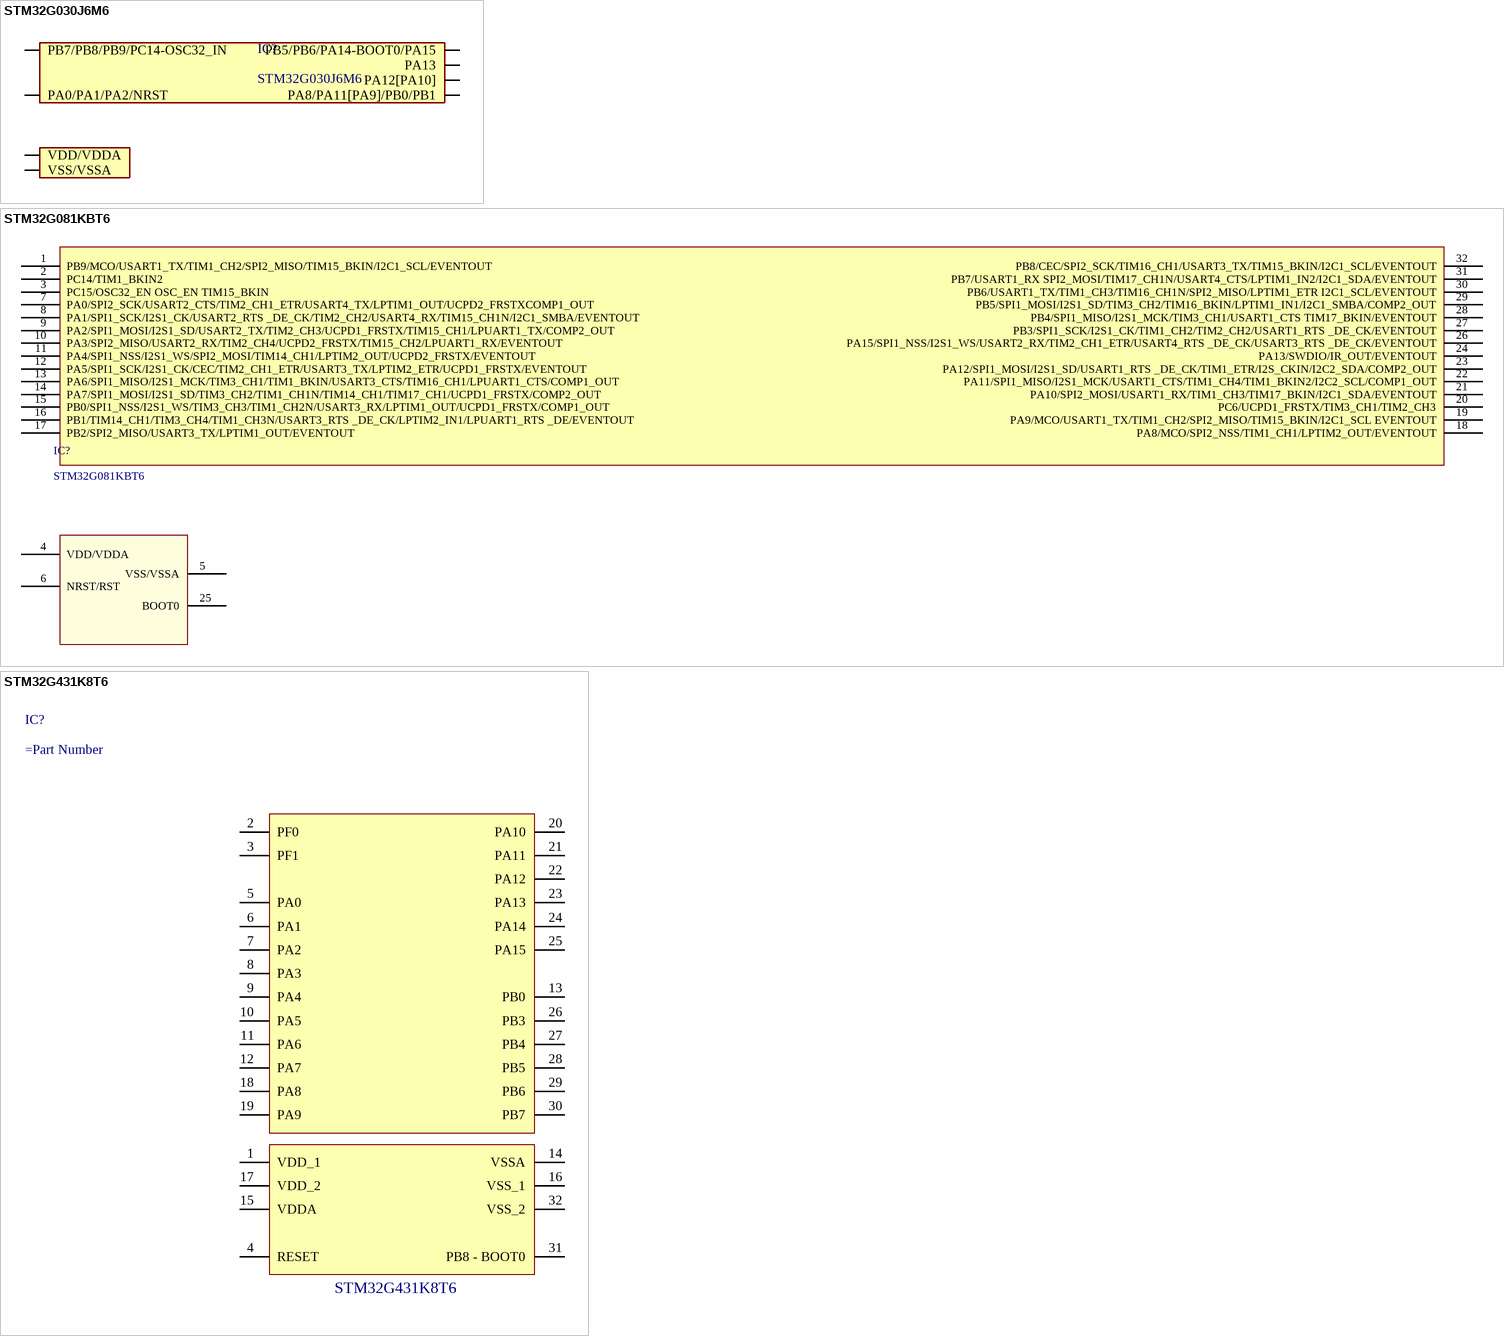
[diagram p10: symbols STM32G030J6M6 to STM32G431K8T6]

## STM32G030J6M6
designator IC?
IC MCU 32-BIT 8kB FLASH ARM Cortex M0+ 64MHZ  SO8N; Manufacturer: STM; Number of I/Os: 5; Oscillator Type: Internal; Program Memory Size: 32kB; Peripherals: ADC, Timer, DMA; Voltage - Supply (Vcc/Vdd): 2 V to 3.6 V; Number of Timers/Counters: 2; Number of ADC Channels: 4; Number of SPI Channels: 3; Number of I2C Channels: 1; Library Control - Checked Footprint: Yes; Library Control - Person that Checked Footprint: Gustavo; Library Control - Person that did the Last Update Footprint: Marcos; Supplier 1: Mouser; Part Number: STM32G030J6M6; Category: ARM Microcontrollers - MCU; Price: 1 = 1.85, 10 = 1.67,  100 = 1.30, 1000 = 0.846 (USD); Package/Case: SO8N; Operating Temperature: -40°C to 85°C; Connectivity: -; Speed: 64MHz; Program Memory Type: Flash; Core Processor: ARM Cortex M0+; RAM Size: 8k B; Core Size: *; Number of UART/USART Channels: 1; Number of Ethernet Channels: -; Series: STM32G0; Library Ref: Microcrontrollers; Supplier Part Number 1: 511-STM32G030J6M6; Library Control - Checked Schematic: Yes; Library Control - Last Project that Used: *; Library Control - Last Update: 19/08/2022 20:58; Library Control - Person that Checked Schematic: Gustavo; Library Control - Person that did the Last Update Schematic: Marcos; ComponentLink1Description: Mouser Link; ComponentLink1URL: https://www.mouser.com/ProductDetail/STMicroelectronics/STM32G030J6M6?qs=uwxL4vQweFMe%2Fiu4dY6izA%3D%3D; ComponentLink2Description: Datasheet Link; ComponentLink2URL: https://www.mouser.com/datasheet/2/389/dm00613878-1799578.pdf
footprint SO8N
pins: 1 PB7/PB8/PB9/PC14-OSC32_IN, 2 VDD/VDDA, 3 VSS/VSSA, 4 PA0/PA1/PA2/NRST, 5 PA8/PA11[PA9]/PB0/PB1, 6 PA12[PA10], 7 PA13, 8 PB5/PB6/PA14-BOOT0/PA15

## STM32G081KBT6
designator IC?
IC MCU 32-BIT 36KB FLASH ARM Cortex-M0+ 64MHZ LQFP-32; Manufacturer: STMicroelectronics; Connectivity: I2C, USART, UART, USB; Number of I/Os: 30; Oscillator Type: Internal; Program Memory Size: 128 kB; Peripherals: Reset,PWM,WDT,DMA,SPI,I2C,USART,DAC,Timer,ADC; Core Processor: ARM Cortex M0+; Voltage - Supply (Vcc/Vdd): 1.7V ~ 3.6V; Number of Timers/Counters: 14; Number of ADC Channels: 16; Number of SPI Channels: 2; Library Control - Person that Checked Footprint: Gustavo; Supplier 1: Mouser; Part Number: STM32G081KBT6; Category: ARM-Microcontrollers; Price: 1=5.57, 10=5.01, 100=4.10 (USD); Package / Case: LQFP-32; Operating Temperature: -40C ~ 85C; Speed: 64 MHz; Program Memory Type: Flash; RAM Size: 36 kB; Core Size: 32-bit; Number of I2C Channels: 2; Number of UART/USART Channels: 2; Number of Ethernet Channels: -; Number of USB Channels: -; Series: STM32G0; Library Ref: Microcontroller; Supplier Part Number 1: 511-STM32G081KBT6; Library Control - Checked Footprint: -; Library Control - Checked Schematic: -; Library Control - Last Project that Used: -; Library Control - Last Update: 19/08/2022 20:59; Library Control - Person that Checked Schematic: Gustavo; ComponentLink1Description: Mouser Link; ComponentLink1URL: https://br.mouser.com/ProductDetail/STMicroelectronics/STM32G081KBT6?qs=%2Fha2pyFadugsXD2hAwVBB8k09UK9AwwGP2UEcOf5dY6GYVqOiLIxlg%3D%3D; ComponentLink2Description: Datasheet; ComponentLink2URL: https://br.mouser.com/datasheet/2/389/dm00412176-1799164.pdf
footprint QFP-32
pins: 1 PB9/MCO/USART1_TX/TIM1_CH2/SPI2_MISO/TIM15_BKIN/I2C1_SCL/EVENTOUT, 2 PC14/TIM1_BKIN2, 3 PC15/OSC32_EN OSC_EN TIM15_BKIN, 4 VDD/VDDA, 5 VSS/VSSA, 6 NRST/RST, 7 PA0/SPI2_SCK/USART2_CTS/TIM2_CH1_ETR/USART4_TX/LPTIM1_OUT/UCPD2_FRSTXCOMP1_OUT, 8 PA1/SPI1_SCK/I2S1_CK/USART2_RTS _DE_CK/TIM2_CH2/USART4_RX/TIM15_CH1N/I2C1_SMBA/EVENTOUT, 9 PA2/SPI1_MOSI/I2S1_SD/USART2_TX/TIM2_CH3/UCPD1_FRSTX/TIM15_CH1/LPUART1_TX/COMP2_OUT, 10 PA3/SPI2_MISO/USART2_RX/TIM2_CH4/UCPD2_FRSTX/TIM15_CH2/LPUART1_RX/EVENTOUT, 11 PA4/SPI1_NSS/I2S1_WS/SPI2_MOSI/TIM14_CH1/LPTIM2_OUT/UCPD2_FRSTX/EVENTOUT, 12 PA5/SPI1_SCK/I2S1_CK/CEC/TIM2_CH1_ETR/USART3_TX/LPTIM2_ETR/UCPD1_FRSTX/EVENTOUT, 13 PA6/SPI1_MISO/I2S1_MCK/TIM3_CH1/TIM1_BKIN/USART3_CTS/TIM16_CH1/LPUART1_CTS/COMP1_OUT, 14 PA7/SPI1_MOSI/I2S1_SD/TIM3_CH2/TIM1_CH1N/TIM14_CH1/TIM17_CH1/UCPD1_FRSTX/COMP2_OUT, 15 PB0/SPI1_NSS/I2S1_WS/TIM3_CH3/TIM1_CH2N/USART3_RX/LPTIM1_OUT/UCPD1_FRSTX/COMP1_OUT, 16 PB1/TIM14_CH1/TIM3_CH4/TIM1_CH3N/USART3_RTS _DE_CK/LPTIM2_IN1/LPUART1_RTS _DE/EVENTOUT, 17 PB2/SPI2_MISO/USART3_TX/LPTIM1_OUT/EVENTOUT, 18 PA8/MCO/SPI2_NSS/TIM1_CH1/LPTIM2_OUT/EVENTOUT, 19 PA9/MCO/USART1_TX/TIM1_CH2/SPI2_MISO/TIM15_BKIN/I2C1_SCL EVENTOUT, 20 PC6/UCPD1_FRSTX/TIM3_CH1/TIM2_CH3, 21 PA10/SPI2_MOSI/USART1_RX/TIM1_CH3/TIM17_BKIN/I2C1_SDA/EVENTOUT, 22 PA11/SPI1_MISO/I2S1_MCK/USART1_CTS/TIM1_CH4/TIM1_BKIN2/I2C2_SCL/COMP1_OUT, 23 PA12/SPI1_MOSI/I2S1_SD/USART1_RTS _DE_CK/TIM1_ETR/I2S_CKIN/I2C2_SDA/COMP2_OUT, 24 PA13/SWDIO/IR_OUT/EVENTOUT, 25 BOOT0, 26 PA15/SPI1_NSS/I2S1_WS/USART2_RX/TIM2_CH1_ETR/USART4_RTS _DE_CK/USART3_RTS _DE_CK/EVENTOUT, 27 PB3/SPI1_SCK/I2S1_CK/TIM1_CH2/TIM2_CH2/USART1_RTS _DE_CK/EVENTOUT, 28 PB4/SPI1_MISO/I2S1_MCK/TIM3_CH1/USART1_CTS TIM17_BKIN/EVENTOUT, 29 PB5/SPI1_MOSI/I2S1_SD/TIM3_CH2/TIM16_BKIN/LPTIM1_IN1/I2C1_SMBA/COMP2_OUT, 30 PB6/USART1_TX/TIM1_CH3/TIM16_CH1N/SPI2_MISO/LPTIM1_ETR I2C1_SCL/EVENTOUT, 31 PB7/USART1_RX SPI2_MOSI/TIM17_CH1N/USART4_CTS/LPTIM1_IN2/I2C1_SDA/EVENTOUT, 32 PB8/CEC/SPI2_SCK/TIM16_CH1/USART3_TX/TIM15_BKIN/I2C1_SCL/EVENTOUT

## STM32G431K8T6
designator IC?
IC MCU 32-BIT 64kB FLASH ARM Cortex-M4 170MHz LQFP-32; Manufacturer: STMicroelectronics; Manufacturer Part Number: STM32G431K8T6; Supplier: Mouser; Supplier Part Number: 511-STM32G431K8T6; RoHS: No; Category: Microcontrollers; Stock: 2984; Pricing: 1=4,38, 10=2,71, 50=2,71, 100=2,42, 1000=2,32, 10000=2,31 (USD); RoHS Compliant: Yes; ComponentLink1URL: https://datasheet.ciiva.com:443/pdfs/VipMasterIC/IC/SGST/SGST-S-A0010030739/SGST-S-A0010102973-1.pdf?src-supplier=IHS+Markit; ComponentLink1Description: https://datasheet.ciiva.com:443/pdfs/VipMasterIC/IC/SGST/SGST-S-A0010030739/SGST-S-A0010102973-1.pdf?src-supplier=IHS+Markit
footprint QFP-32
pins: 1 VDD_1, 2 PF0, 3 PF1, 4 RESET, 5 PA0, 6 PA1, 7 PA2, 8 PA3, 9 PA4, 10 PA5, 11 PA6, 12 PA7, 13 PB0, 14 VSSA, 15 VDDA, 16 VSS_1, 17 VDD_2, 18 PA8, 19 PA9, 20 PA10, 21 PA11, 22 PA12, 23 PA13, 24 PA14, 25 PA15, 26 PB3, 27 PB4, 28 PB5, 29 PB6, 30 PB7, 31 PB8 - BOOT0, 32 VSS_2

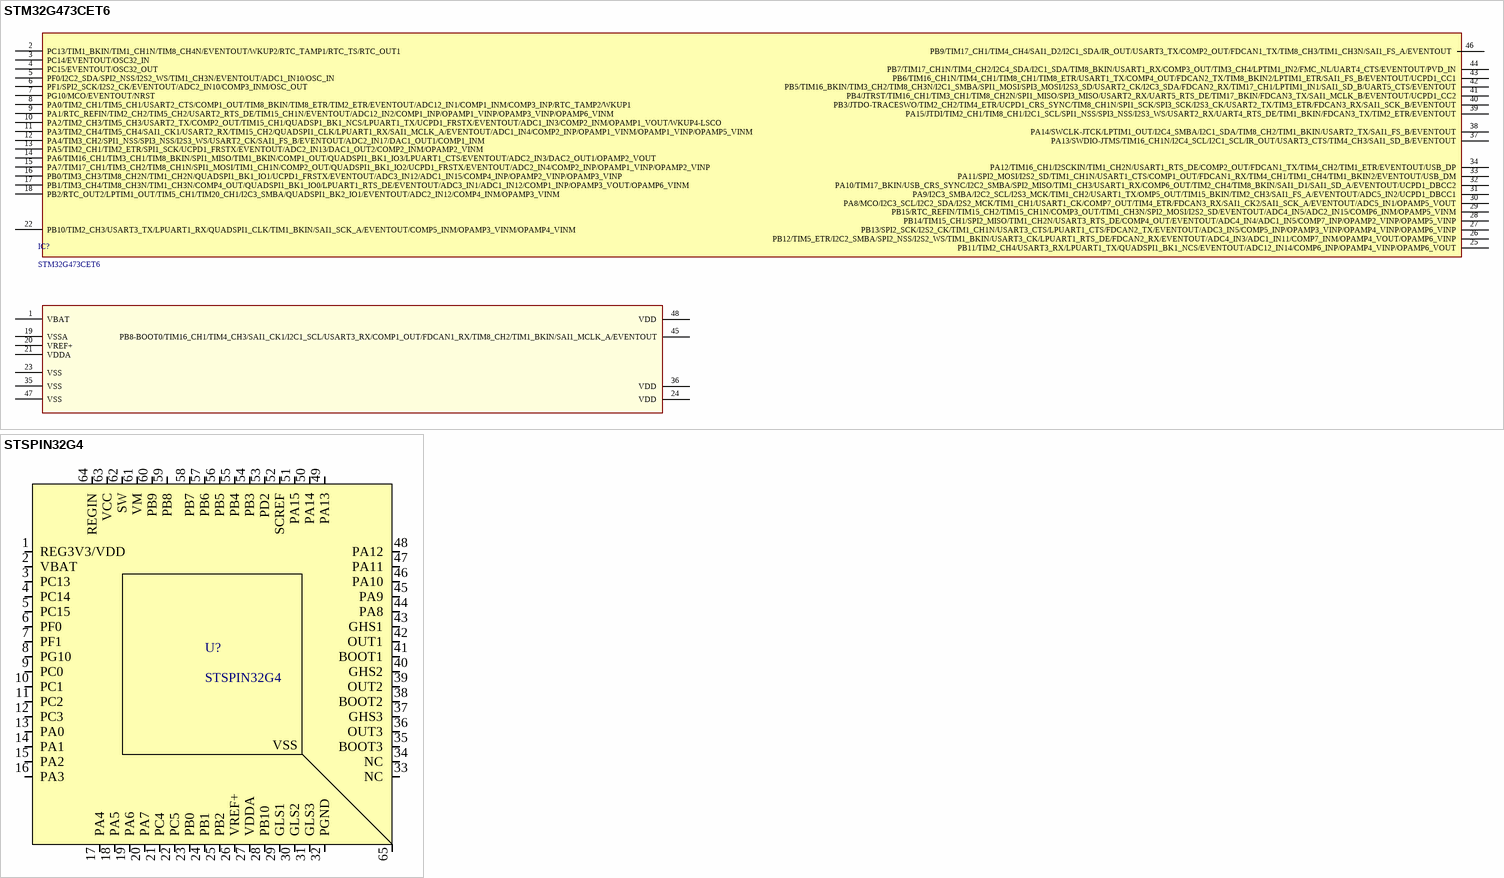
[diagram p11: symbols STM32G473CET6 to STSPIN32G4]